# Altium schematic symbol library carrot_lib.SchLib: 285 symbols (part 1 of 4)
Pins are listed as number, name and electrical type; pins without a type are passive.

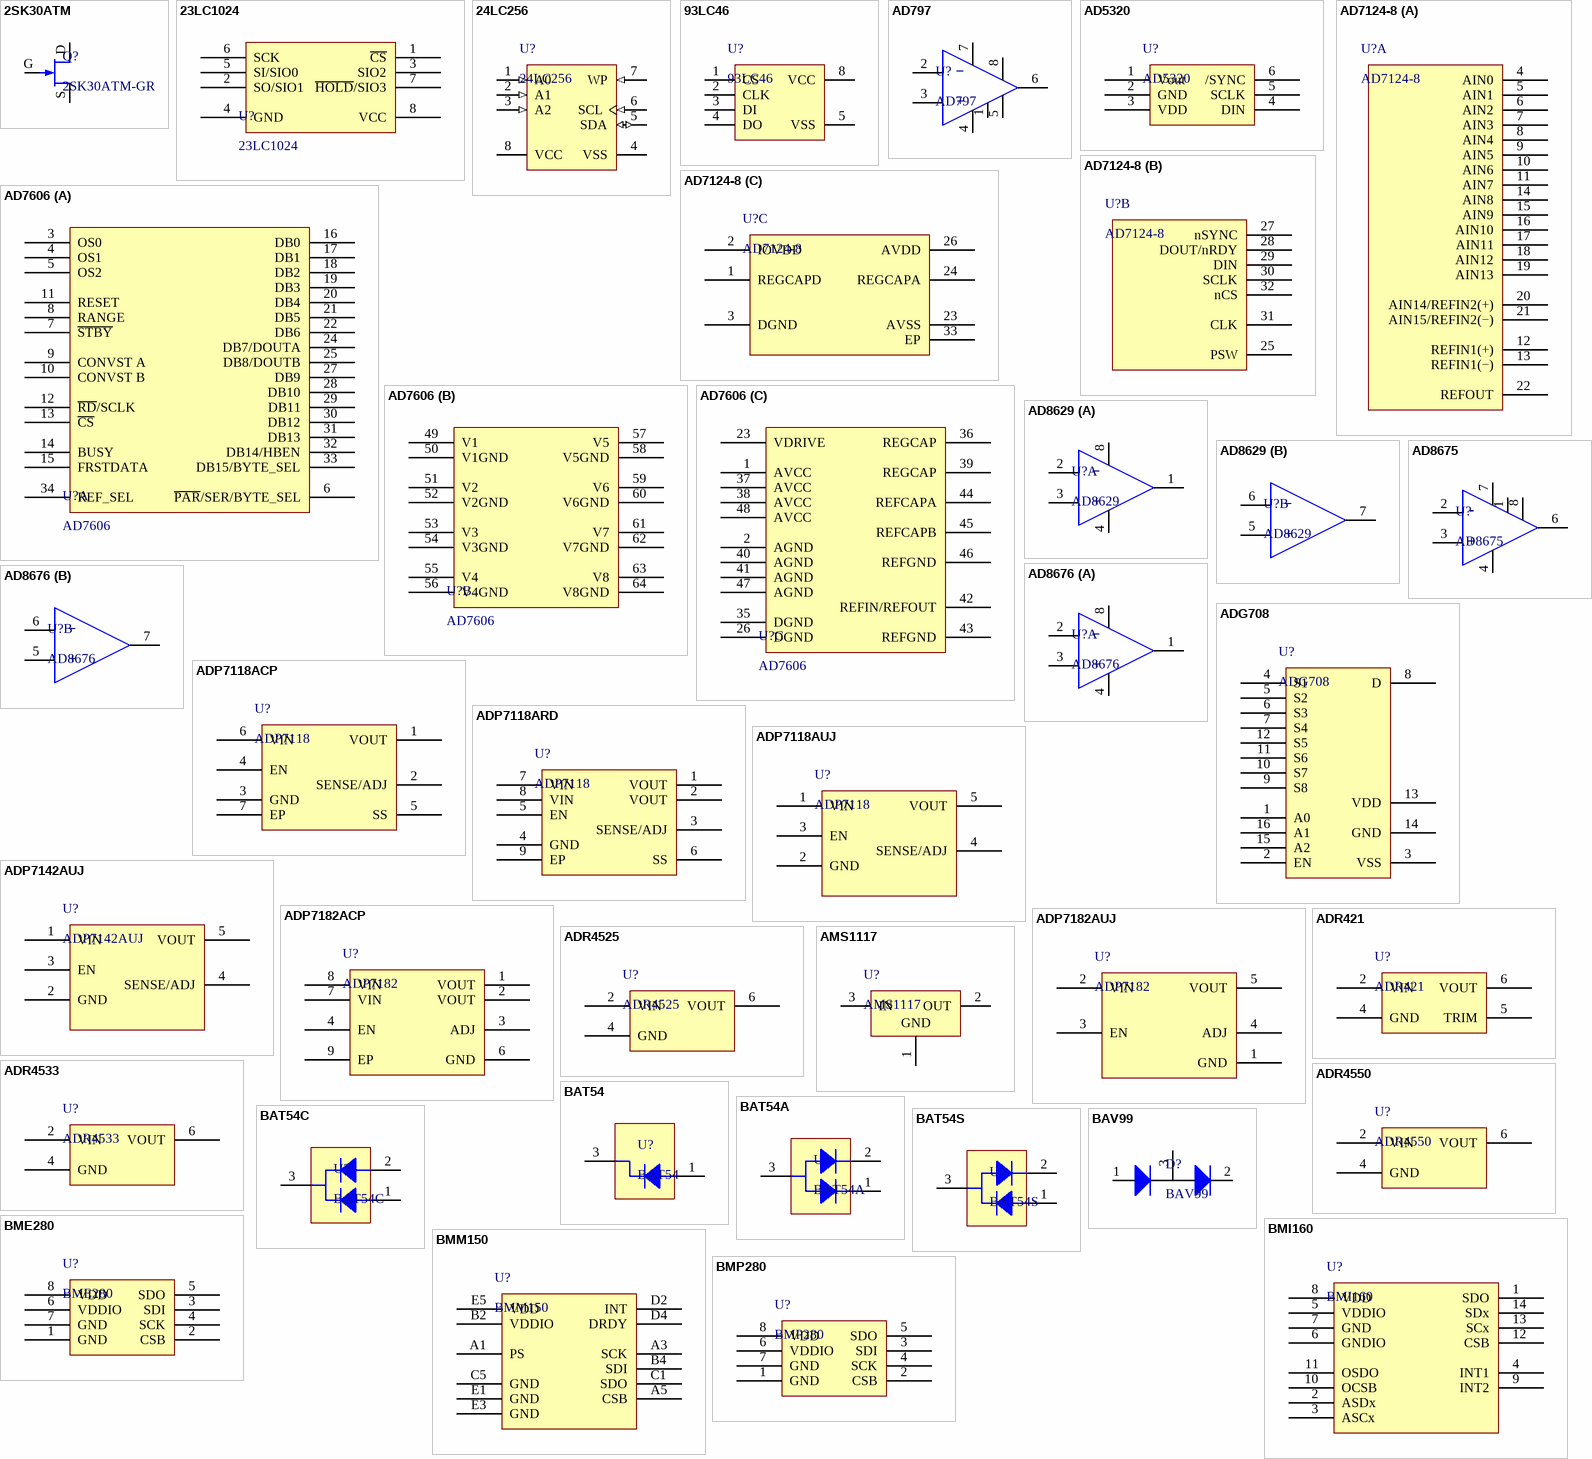
[diagram p0: symbols 2SK30ATM to BMP280]

## 2SK30ATM
designator Q?, comment 2SK30ATM-GR
TOSHIBA Field Effect Transistor, Silicon N Channel Junction Type
footprint 2SK30ATM-TO92 (TO, Flat Index; 3 In-Line, Axial Leads; Body Dia. 4.5mm; Leads 0.51 x 0.48 mm (max))
pins: D, G, S

## 23LC1024
designator U?
1Mbit SPI Serial SRAM with SDI and SQI Interface
footprint 23LC1024-SOIC8 (SOIC, 8-Leads, Body 4.90x3.90mm, Pitch 1.27mm, IPC Medium Density)
pins: 1 ~{CS} "Chip Select Input Pin", 2 SO/SIO1 "Serial Output/SDI/SQI Pin", 3 SIO2 "SQI Pin", 4 GND "Ground Pin", 5 SI/SIO0 "Serial Input/SDI/SQI Pin", 6 SCK "Serial Clock Pin", 7 ~{HOLD}/SIO3 "Hold/SQI Pin", 8 VCC "Power Supply Pin"

## 24LC256
designator U?
256Kbit, 400kHz, 2.5V, I2C Serial EEPROM, 8-Pin SOIC 150mil, Industrial Temperature; Manufacturer: Microchip; PartNumber: 24LC256-I/SN; DatasheetVersion: revP, Oct-2007; PackageVersion: revBB, Aug-2009; PackageReference: SOIC-SN8; PackageDescription: 8-Lead Plastic Small Outline (SN) - Narrow, 3.90mm Body [SOIC]; Mounting Technology: Surface Mount; Code_JEDEC: MS-012; Code_IPC: SOIC127P600-8; ComponentLink1Description: Manufacturer URL; ComponentLink1URL: http://www.microchip.com/; ComponentLink2Description: Datasheet; ComponentLink2URL: http://ww1.microchip.com/downloads/en/DeviceDoc/21203P.pdf; ComponentLink3Description: Package Specification; ComponentLink3URL: http://www.microchip.com/stellent/groups/techpub_sg/documents/packagingspec/en012702.pdf
footprint 24LC256-SOIC8 (SOIC, 8-Leads, Body 4.9x3.8mm, Pitch 1.27mm, IPC Medium Density)
pins: 1 A0 (in), 2 A1 (in), 3 A2 (in), 4 VSS (power), 5 SDA (io), 6 SCL (in), 7 WP (in), 8 VCC (power)

## 93LC46
designator U?
1K Microwire Compatible Serial EEPROM
footprint 93LC46-SOIC8 (SOIC, 8-Leads, Body 4.90x3.90mm, Pitch 1.27mm, IPC Medium Density)
pins: 1 CS, 2 CLK, 3 DI, 4 DO, 5 VSS, 8 VCC

## AD797
designator U?
Ultralow Distortion, Ultralow Noise Op Amp
footprint AD797-SOIC8 (SOIC, 8-Leads, Body 4.90x3.90mm, Pitch 1.27mm, IPC Medium Density)
pins: 1 OFFSET NULL, 2 -IN, 3 +IN, 4 -Vs, 5 OFFSET NULL, 6 OUTPUT, 7 +Vs, 8 DECOMPENSATION AND DISTORTION NEUTRALIZATION
text: –; +

## AD5320
designator U?
footprint AD5320-SOT-23-6 (SOT23, 6-Leads, Body 2.90x2.80mm, Pitch 0.95mm, IPC Medium Density)
pins: 1 Vout, 2 GND, 3 VDD, 4 DIN, 5 SCLK, 6 /SYNC

## AD7124-8
designator U?
8-Channel, Low Noise, Low Power, 24-Bit,Sigma-Delta ADC with PGA and Reference.
footprint AD7124-8-LFCSP32 (QFN, 32-Leads, Body 5.00x5.00mm, Pitch 0.50mm, Thermal Pad 3.65x3.65mm, IPC Medium Density)
footprint AD7124-8-LFCSP32+ (QFN, 32-Leads, Body 5.00x5.00mm, Pitch 0.50mm, Thermal Pad 3.65x3.65mm, IPC Low Density)
part A pins: 4 AIN0 "Analog Input 0.", 5 AIN1 "Analog Input 1.", 6 AIN2 "Analog Input 2.", 7 AIN3 "Analog Input 3.", 8 AIN4 "Analog Input 4.", 9 AIN5 "Analog Input 5.", 10 AIN6 "Analog Input 6.", 11 AIN7 "Analog Input 7.", 12 REFIN1(+) "Positive Reference Input.", 13 REFIN1(−) "Negative Reference Input.", 14 AIN8 "Analog Input 8.", 15 AIN9 "Analog Input 9.", 16 AIN10 "Analog Input 10.", 17 AIN11 "Analog Input 11.", 18 AIN12 "Analog Input 12.", 19 AIN13 "Analog Input 13.", 20 AIN14/REFIN2(+) "Analog Input 14/Positive Reference Input.", 21 AIN15/REFIN2(−) "Analog Input 15/Negative Reference Input.", 22 REFOUT "Internal Reference Output."
part B pins: 25 PSW "Low-Side Power Switch to AVSS.", 27 nSYNC "Synchronization Input.", 28 DOUT/nRDY "Serial Data Output/Data Ready Output.", 29 DIN "Serial Data Input to the Input Shift Register on the ADC.", 30 SCLK "Serial Clock Input.", 31 CLK "Clock Input/Clock Output.", 32 nCS "Chip Select Input."
part C pins: 1 REGCAPD "Digital LDO Regulator Output.", 2 IOVDD "Serial Interface Supply Voltage, 1.65 V to 3.6 V.", 3 DGND "Digital Ground Reference Point.", 23 AVSS "Analog Supply Voltage.", 24 REGCAPA "Analog LDO Regulator Output.", 26 AVDD "Analog Supply Voltage, Relative to AVSS", 33 EP "Exposed Pad."

## AD7606
designator U?
8-Channel DAS with 16-Bit, Bipolar Input, Simultaneous Sampling ADC
footprint AD7606-LQFP64+ (TSQFP, 64-Leads, Body 10.00x10.00mm, Pitch 0.50mm, IPC Medium Density)
footprint AD7606-LQFP64 (TSQFP, 64-Leads, Body 10.00x10.00mm, Pitch 0.50mm, IPC Medium Density)
part A pins: 3 OS0, 4 OS1, 5 OS2, 6 ~{PAR}/SER/BYTE_SEL, 7 ~{STBY}, 8 RANGE, 9 CONVST A, 10 CONVST B, 11 RESET, 12 ~{RD}/SCLK, 13 ~{CS}, 14 BUSY, 15 FRSTDATA, 16 DB0, 17 DB1, 18 DB2, 19 DB3, 20 DB4, 21 DB5, 22 DB6, 24 DB7/DOUTA, 25 DB8/DOUTB, 27 DB9, 28 DB10, 29 DB11, 30 DB12, 31 DB13, 32 DB14/HBEN, 33 DB15/BYTE_SEL, 34 REF_SEL
part B pins: 49 V1, 50 V1GND, 51 V2, 52 V2GND, 53 V3, 54 V3GND, 55 V4, 56 V4GND, 57 V5, 58 V5GND, 59 V6, 60 V6GND, 61 V7, 62 V7GND, 63 V8, 64 V8GND
part C pins: 1 AVCC, 2 AGND, 23 VDRIVE, 26 DGND, 35 DGND, 36 REGCAP, 37 AVCC, 38 AVCC, 39 REGCAP, 40 AGND, 41 AGND, 42 REFIN/REFOUT, 43 REFGND, 44 REFCAPA, 45 REFCAPB, 46 REFGND, 47 AGND, 48 AVCC

## AD8629
designator U?
Zero-Drift, Single-Supply, Rail-to-Rail Input/Output Operational Amplifier.
footprint AD8629-SOIC8 (SOIC, 8-Leads, Body 4.90x3.90mm, Pitch 1.27mm, IPC Medium Density)
part A pins: 1 OUT A, 2 -IN A, 3 +IN A, 4 -Vs, 8 +Vs
part B pins: 5 +IN B, 6 -IN B, 7 OUT B
part A text: –; +
part B text: –; +

## AD8675
designator U?
36 V Precision, 2.8 nV/√Hz Rail-to-Rail Output Op Amp
footprint AD8675-SOIC8 (SOIC, 8-Leads, Body 4.90x3.90mm, Pitch 1.27mm, IPC Medium Density)
pins: 1 OFFSET NULL, 2 -IN, 3 +IN, 4 -Vs, 6 OUTPUT, 7 +Vs, 8 OFFSET NULL
text: -; +

## AD8676
designator U?
Ultraprecision, 36 V, 2.8 nV/√Hz Dual Rail-to-Rail Output Op Amp
footprint AD8676-SOIC8 (SOIC, 8-Leads, Body 4.90x3.90mm, Pitch 1.27mm, IPC Medium Density)
part A pins: 1 OUT A, 2 -IN A, 3 +IN A, 4 -Vs, 8 +Vs
part B pins: 5 +IN B, 6 -IN B, 7 OUT B
part A text: –; +
part B text: –; +

## ADG708
designator U?
CMOS, 1.8 V to 5.5 V/±2.5 V, 3 Ω Low Voltage 4-/8-Channel Multiplexers
footprint ADG708-TSSOP16 (TSOP, 16-Leads, Body 5.00x4.40mm, Pitch 0.65mm, IPC Medium Density)
pins: 1 A0 "Digital Input. Controls the configuration of the switch", 2 EN "Digital Input. Controls the configuration of the switch", 3 VSS "Most Negative Power Supply Pin in Dual-Supply Applications.", 4 S1 "Source Terminal.", 5 S2 "Source Terminal.", 6 S3 "Source Terminal.", 7 S4 "Source Terminal.", 8 D "Drain Terminal.", 9 S8 "Source Terminal.", 10 S7 "Source Terminal.", 11 S6 "Source Terminal.", 12 S5 "Source Terminal.", 13 VDD "Most Positive Power Supply Pin.", 14 GND "Ground (0 V) Reference.", 15 A2 "Digital Input.", 16 A1 "Digital Input."

## ADP7118ACP
designator U?, comment ADP7118
20 V, 200 mA, Low Noise,CMOS LDO Linear Regulator.
footprint ADP7118-LFCSP6 (SON, 6-Leads, Body 2.00x2.00mm, Pitch 0.65mm, Thermal Pad 1.60x0.63mm, IPC Medium Density)
pins: 1 VOUT "Regulated Output Voltage.", 2 SENSE/ADJ "Sense Input (SENSE).", 3 GND "Ground.", 4 EN "The enable pin controls the operation of the LDO.", 5 SS "Soft Start.", 6 VIN "Regulator Input Supply.", 7 EP "Exposed Pad."

## ADP7118ARD
designator U?, comment ADP7118
20 V, 200 mA, Low Noise,CMOS LDO Linear Regulator.
footprint ADP7118-SOIC8 (SOIC, 8-Leads, Body 4.90x3.90mm, Pitch 1.27mm, Thermal Pad 2.29x2.29mm, IPC Medium Density)
pins: 1 VOUT "Regulated Output Voltage.", 2 VOUT "Regulated Output Voltage.", 3 SENSE/ADJ "Sense Input (SENSE).", 4 GND "Ground.", 5 EN "The enable pin controls the operation of the LDO.", 6 SS "Soft Start.", 7 VIN "Regulator Input Supply.", 8 VIN "Regulator Input Supply.", 9 EP "Exposed Pad."

## ADP7118AUJ
designator U?, comment ADP7118
20 V, 200 mA, Low Noise,CMOS LDO Linear Regulator.
footprint ADP7118-TSOT5 (SOT23, 5-Leads, Body 2.90x2.80mm, Pitch 0.95mm, IPC Medium Density)
pins: 1 VIN "Regulator Input Supply.", 2 GND "Ground.", 3 EN "The enable pin controls the operation of the LDO.", 4 SENSE/ADJ "Sense Input (SENSE).", 5 VOUT "Regulated Output Voltage."

## ADP7142AUJ
designator U?
40 V, 200 mA, Low Noise, CMOS LDO Linear Regulator
footprint ADP7142-TSOT5 (SOT23, 5-Leads, Body 2.90x2.80mm, Pitch 0.95mm, IPC Medium Density)
pins: 1 VIN "Regulator Input Supply.", 2 GND "Ground.", 3 EN "The enable pin controls the operation of the LDO.", 4 SENSE/ADJ "Sense Input (SENSE).", 5 VOUT "Regulated Output Voltage."

## ADP7182ACP
designator U?, comment ADP7182
–28 V, −200 mA, Low Noise, Linear Regulator
footprint ADP7182-LFCSP8 (SON, 8-Leads, Body 3.00x3.00mm, Pitch 0.50mm, Thermal Pad 1.74x1.45mm, IPC Medium Density)
footprint ADP7182-LFCSP8+ (SON, 8-Leads, Body 3.00x3.00mm, Pitch 0.50mm, Thermal Pad 1.74x1.45mm, IPC Medium Density)
pins: 1 VOUT "Regulated Output Voltage.", 2 VOUT "Regulated Output Voltage.", 3 ADJ "Adjustable Input.", 4 EN "Drive EN 2 V above or below ground to enable the regulator.", 6 GND "Ground.", 7 VIN "Regulator Input Supply.", 8 VIN "Regulator Input Supply.", 9 EP "Exposed Pad."

## ADP7182AUJ
designator U?, comment ADP7182
–28 V, −200 mA, Low Noise, Linear Regulator
footprint ADP7182-TSOT5 (SOT23, 5-Leads, Body 2.90x2.80mm, Pitch 0.95mm, IPC Medium Density)
pins: 1 GND "Ground.", 2 VIN "Regulator Input Supply.", 3 EN "Drive EN 2 V above or below ground to enable the regulator.", 4 ADJ "Adjustable Input.", 5 VOUT "Regulated Output Voltage."

## ADR421
designator U?
Ultraprecision, Low Noise, 2.500 V XFET® Voltage References
footprint ADR421-SOIC8 (SOIC, 8-Leads, Body 4.90x3.90mm, Pitch 1.27mm, IPC Medium Density)
pins: 2 VIN "Input Voltage.", 4 GND "Ground Pin = 0 V.", 5 TRIM "Trim Terminal.", 6 VOUT "Output Voltage."

## ADR4525
designator U?
Ultralow Noise, High Accuracy Voltage References.
footprint ADR4525-SOIC8 (SOIC, 8-Leads, Body 4.90x3.90mm, Pitch 1.27mm, IPC Medium Density)
pins: 2 VIN "Input Voltage Connection.", 4 GND "Ground.", 6 VOUT "Output Voltage."

## ADR4533
designator U?
Ultralow Noise, High Accuracy Voltage References.
footprint ADR4533-SOIC8 (SOIC, 8-Leads, Body 4.90x3.90mm, Pitch 1.27mm, IPC Medium Density)
pins: 2 VIN "Input Voltage Connection.", 4 GND "Ground.", 6 VOUT "Output Voltage."

## ADR4550
designator U?
Ultralow Noise, High Accuracy Voltage References.
footprint ADR4550-SOIC8 (SOIC, 8-Leads, Body 4.90x3.90mm, Pitch 1.27mm, IPC Medium Density)
pins: 2 VIN "Input Voltage Connection.", 4 GND "Ground.", 6 VOUT "Output Voltage."

## AMS1117
designator U?
footprint AMS1117-SOT223 (SOT-223)
pins: 1 GND, 2 OUT, 3 IN

## BAT54
designator U?
Schottky barrier diodes
footprint BAT54X-SOT23 (SOT23, 3-Leads, Body 2.90x2.37mm, Pitch 0.95mm, IPC Medium Density)
pins: 1, 3

## BAT54A
designator U?
Schottky barrier diodes
footprint BAT54X-SOT23 (SOT23, 3-Leads, Body 2.90x2.37mm, Pitch 0.95mm, IPC Medium Density)
pins: 1, 2, 3

## BAT54C
designator U?
Schottky barrier diodes
footprint BAT54X-SOT23 (SOT23, 3-Leads, Body 2.90x2.37mm, Pitch 0.95mm, IPC Medium Density)
pins: 1, 2, 3

## BAT54S
designator U?
Schottky barrier diodes
footprint BAT54X-SOT23 (SOT23, 3-Leads, Body 2.90x2.37mm, Pitch 0.95mm, IPC Medium Density)
pins: 1, 2, 3

## BAV99
designator D?
Small Signal Switching Diode, Dual in Series
footprint BAV99-SOT23 (SOT23, 3-Leads, Body 2.90x2.37mm, Pitch 0.95mm, IPC Medium Density)
pins: 1 A1, 2 K2, 3 K1/A2

## BME280
designator U?
Combined humidity and pressure sensor
footprint BME280-LGA8 (SON, 8-Leads, Body 2.50x2.00mm, Pitch 0.65mm, IPC Medium Density)
pins: 1 GND "Ground", 2 CSB "Chip select", 3 SDI "Serial data input", 4 SCK "Serial clock input", 5 SDO "Serial data output", 6 VDDIO "Digital interface supply", 7 GND "Ground", 8 VDD "Analog supply"

## BMI160
designator U?
Small, low-power Inertial Measurement Unit
footprint BMI160-LGA14 (LCC, 14-Pins, Body 2.50x3.00mmx0.83mm, Pitch 0.50mm, IPC Medium Density)
pins: 1 SDO "Serial data output in SPI,Address select in I2C mode", 2 ASDx "Magnetometer interface(If INT1 and/or INT2 are not used, please do not connect them (DNC))", 3 ASCx "Magnetometer interface", 4 INT1 "Interrupt pin 1 (If INT1 and/or INT2 are not used, please do not connect them (DNC))", 5 VDDIO "Digital I/O supply voltage  (1.2 … 3.6V)", 6 GNDIO "Ground for I/O", 7 GND "Ground for digital & analog", 8 VDD "Power supply analog & digital domain (1.71V – 3.6V)", 9 INT2 "Interrupt pin 2 (If INT1 and/or INT2 are not used, please do not connect them (DNC))", 10 OCSB "OIS interface", 11 OSDO "OIS interface", 12 CSB "Chip select for SPI mode / Protocol selection pin", 13 SCx "SCK for SPI serial clock, SCL for I²C serial clock", 14 SDx "SDA serial data I/O in I2C, MOSI serial data input in SPI 4W, SISO serial data I/O in SPI 3W"

## BMM150
designator U?
THREE-AXIS GEOMAGNETIC SENSOR
footprint BMM150-BGA12 (BGA, 12-Leads, Body 1.56x1.56mmx0.60mm, Pitch 0.28mm)
footprint BMM150-BGA12+ (BGA, 12-Leads, Body 1.56x1.56mmx0.60mm, Pitch 0.28mm)
pins: A1 PS "Protocol select", A3 SCK "Serial clock", A5 CSB "Chip Select", B2 VDDIO "I/O voltage", B4 SDI "SPI: Data, I²C: Data", C1 SDO "SPI: Data out", C5 GND "Ground", D2 INT "Interrupt output", D4 DRDY "Data ready", E1 GND "Ground", E3 GND "Ground", E5 VDD "Supply voltage"

## BMP280
designator U?
Digital Pressure Sensor
footprint BMP280-LGA8 (SON, 8-Leads, Body 2.50x2.00mm, Pitch 0.65mm, IPC Medium Density)
pins: 1 GND "Ground", 2 CSB "Chip select", 3 SDI "Serial data input", 4 SCK "Serial clock input", 5 SDO "Serial data output", 6 VDDIO "Digital interface supply", 7 GND "Ground", 8 VDD "Analog supply"

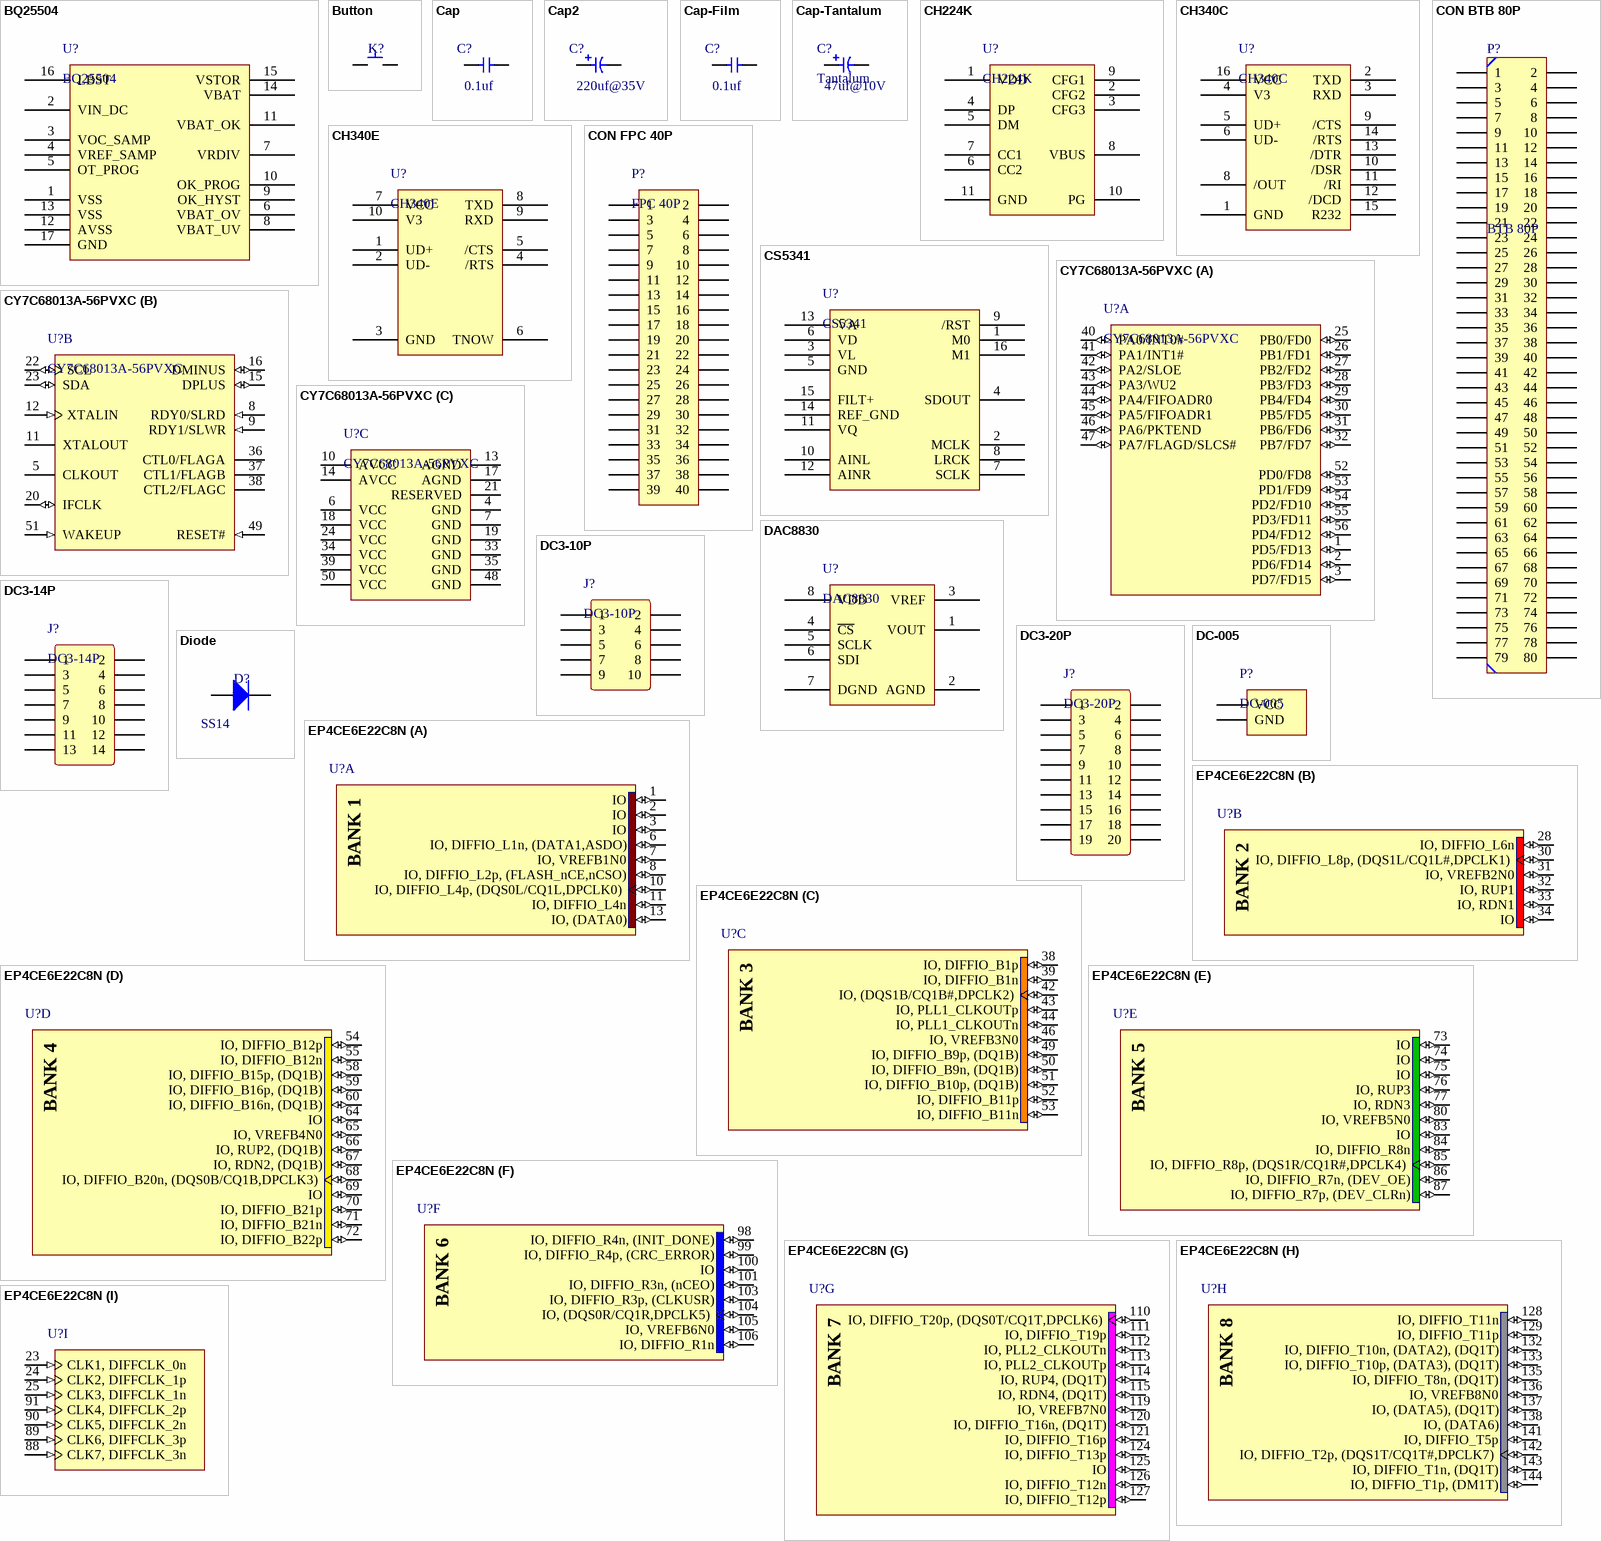
[diagram p1: symbols BQ25504 to EP4CE6E22C8N]

## BQ25504
designator U?
Ultra Low Power Boost Converter with Battery Management for Energy Harvester Applications
footprint BQ25504-VQFN16 (QFN, 16-Leads, Body 3.00x3.00mm, Pitch 0.50mm, Thermal Pad 1.68x1.68mm, IPC Medium Density)
pins: 1 VSS "General ground connection for the device", 2 VIN_DC "DC voltage input from energy harvesters. Connect at least a 4.7 µF capacitor as close as possible between this pin and pin 1.", 3 VOC_SAMP "Sampling pin for MPPT network. Connect to the mid-point of external resistor divider between VIN_DC and GND for setting the MPP threshold voltage which will be stored on the VREF_SAMP pin. To disable the MPPT sampling circuit, connect to VSTOR.", 4 VREF_SAMP "Connect a 0.01 µF low leakage capacitor from this pin to GND to store the voltage to which VIN_DC will be regulated. This voltage is provided by the MPPT sample circuit. When MPPT is disabled, either use an external voltage source to provide this voltage or tie this pin to GND to disable input voltage regulation (i.e. operate from a low impedance power supply).", 5 OT_PROG "Digital Programming input for IC overtemperature threshold. Connect to GND for 60 C threshold or VSTOR for 120 C threshold.", 6 VBAT_OV "Connect to the mid-point of external resistor divider between VRDIV and GND for setting the VSTOR = VBAT overvoltage threshold.", 7 VRDIV "Resistor divider biasing voltage.", 8 VBAT_UV "Connect to the mid-point of external resistor divider between VRDIV and GND for setting the VBAT undervoltage threshold. The PFET between VBAT and VSTOR opens if the voltage on VSTOR is below this threshold.", 9 OK_HYST "Connect to the mid-point of external resistor divider between VRDIV and GND for setting the VBAT_OK hysteresis threshold. If not used, connect this pin to GND.", 10 OK_PROG "Connect to the mid-point of external resistor divider between VRDIV and GND for setting the VBAT_OK threshold.If not used, connect this pin to GND.", 11 VBAT_OK "Digital output for battery good indicator. Internally referenced to the VSTOR voltage. Leave floating if not used.", 12 AVSS "Signal ground connection for the device", 13 VSS "General ground connection for the device", 14 VBAT "Connect a rechargeable storage element with at least 100 uF of equivalent capacitance to this pin", 15 VSTOR "Connection for the output of the boost charger, which is typically connected to the system load. Connect at least a 4.7 µF capacitor in parallel with a 0.1 µF capacitor as close as possible to between this pin and pin 1 (VSS).", 16 LBST "Inductor connection for the boost charger switching node. Connect a 22 µH inductor between this pin and pin 2 (VIN_DC).", 17 GND "Signal ground connection for the device"

## Button
designator K?  (value not drawn)
微动开关
footprint Button (轻触开关6*6*5)
footprint Button-SMD-3.0x6.0x2.5 (轻触开关(贴片) 3*6*2.5MM)
footprint Button-SMD-4.5x4.5x3.8 (轻触开关(贴片) 4.5*4.5*3.8MM)
footprint Button-SMD-6.0x6.0x6.0 (轻触开关(贴片) 6*6*6MM)
footprint Button-SMD-3.0x4.0x2.0 (微动开关(贴片) 3*4*2MM)
footprint Button-SMD-3.0x4.0x2.0+ (微动开关(贴片) 3*4*2MM)
pins: 1 IN, 2 OUT

## Cap
designator C?  value 0.1uf
footprint C0201 (Chip Capacitor, 2-Leads, Body 0.60x0.30mm, IPC Medium Density)
footprint C0402 (Chip Capacitor, 2-Leads, Body 1.00x0.50mm, IPC Medium Density)
footprint C0603 (Chip Capacitor, 2-Leads, Body 1.60x0.81mm, IPC Medium Density)
footprint C0805 (Chip Capacitor, 2-Leads, Body 2.01x1.25mm, IPC Medium Density)
footprint C1206 (Chip Capacitor, 2-Leads, Body 3.20x1.60mm, IPC Medium Density)
footprint C1210 (Chip Capacitor, 2-Leads, Body 3.20x2.50mm, IPC Medium Density)
footprint C1812 (Chip Capacitor, 2-Leads, Body 4.50x3.20mm, IPC Medium Density)
footprint C2225 (Chip Capacitor, 2-Leads, Body 5.72x6.40mm, IPC Medium Density)
pins: 1, 2

## Cap2
designator C?  value 220uf@35V
footprint C6.3X11 (Cap2,D=6.3,d=0.5,F=2.5,L=11)
footprint C10X17 (Cap2,D=10,d=0.6,F=5,L=17)
footprint C5X11 (Cap2,D=5,d=0.5,F=2,L=11)
footprint C13X21 (Cap2,D=13,d=0.6,F=5,L=21)
footprint C8X12 (Cap2,D=8,d=0.5,F=3.5,L=12)
footprint C6.3X7.7-SMD (Aluminum Electrolytic Capacitor, Body 6.60x6.60x8.00mm, IPC Low Density)
footprint C4X5.4-SMD (Aluminum Electrolytic Capacitor, Body 4.30x4.30x5.60mm, IPC Medium Density)
pins: 1, 2

## Cap-Film
designator C?  value 0.1uf
footprint CAP-FILM-7.2X2.5X6.5-P5X0.5 (Film Cap,W=2.5,H=6.5,L=7.2,P=5,D=0.5)
footprint CAP-FILM-7.2X3.0X7.5-P5X0.5 (Film Cap,W=3,H=7.5,L=7.2,P=5,D=0.5)
footprint CAP-FILM-7.2X4.5X6.0-P5X0.5 (Film Cap,W=4.5,H=6,L=7.2,P=5,D=0.5)
footprint CAP-FILM-7.2X4.5X9.5-P5X0.5 (Film Cap,W=4.5,H=9.5,L=7.2,P=5,D=0.5)
footprint CAP-FILM-7.2X5.0X10.0-P5X0.5 (Film Cap,W=5,H=10,L=7.2,P=5,D=0.5)
footprint CAP-FILM-7.2X5.5X7.0-P5X0.5 (Film Cap,W=5.5,H=7,L=7.2,P=5,D=0.5)
footprint CAP-FILM-7.2X6.5X8.0-P5X0.5 (Film Cap,W=6.5,H=8,L=7.2,P=5,D=0.5)
footprint CAP-FILM-7.2X7.2X8.5-P5X0.5 (Film Cap,W=7.2,H=8.5,L=7.2,P=5,D=0.5)
footprint CAP-FILM-7.2X8.5X10-P5X0.5 (Film Cap,W=8.5,H=10,L=7.2,P=5,D=0.5)
footprint CAP-FILM-16.5X10.6X14.5-P15X0.6 (Film Cap,W=10.6,H=14.5,L=16.5,P=15,D=0.6)
pins: 1, 2

## Cap-Tantalum
designator C?, comment Tantalum  value 47uf@10V
footprint C1210T-3528B (Chip Capacitor, 2-Leads, Body 3.50x2.85mm, IPC Medium Density)
footprint C2917T-7343D (Chip Capacitor, 2-Leads, Body 7.30x4.35mm, IPC Medium Density)
pins: 1, 2

## CH224K
designator U?
USB PD 等多快充协议受电芯片CH224
footprint CH224K-ESSOP10 (TSOP, 10-Leads, Body 4.90x3.90mm, Pitch 1.00mm, Thermal Pad 3.40x2.20mm, IPC Medium Density)
pins: 1 VDD, 2 CFG2, 3 CFG3, 4 DP, 5 DM, 6 CC2, 7 CC1, 8 VBUS, 9 CFG1, 10 PG, 11 GND

## CH340C
designator U?
USB 转串口芯片
footprint CH340C-SOP16 (SOP, 16-Leads, Body 9.90x3.90mm, Pitch 1.27mm, IPC Medium Density)
pins: 1 GND, 2 TXD, 3 RXD, 4 V3, 5 UD+, 6 UD-, 8 /OUT, 9 /CTS, 10 /DSR, 11 /RI, 12 /DCD, 13 /DTR, 14 /RTS, 15 R232, 16 VCC

## CH340E
designator U?
USB 转串口芯片
footprint CH340E-MSOP10 (TSSOP, 10-Leads, Body 3.00x3.00mm, Pitch 0.50mm, IPC Medium Density)
pins: 1 UD+, 2 UD-, 3 GND, 4 /RTS, 5 /CTS, 6 TNOW, 7 VCC, 8 TXD, 9 RXD, 10 V3

## CON BTB 80P
designator P?, comment BTB 80P
Free Height, PCB Mount Receptacle, Vertical, Board-to-Board, 80 Position, .8mm [.031in] Centerline, Gold, Printed Circuit Board; LatestRevisionDate: 17-Jul-2002; LatestRevisionNote: Re-released for DXP Platform.; Publisher: Altium Limited
footprint BTB-0.8mm-80P-F (TE-5177983)
footprint BTB-0.8mm-80P-F+ (TE-5177983)
footprint BTB-0.8mm-80P-M (TE-5177983)
footprint BTB-0.8mm-80P-M+ (TE-5177983)
pins: 1, 2, 3, 4, 5, 6, 7, 8, 9, 10, 11, 12, 13, 14, 15, 16, 17, 18, 19, 20, 21, 22, 23, 24, 25, 26, 27, 28, 29, 30, 31, 32, 33, 34, 35, 36, 37, 38, 39, 40, 41, 42, 43, 44, 45, 46, 47, 48, 49, 50, 51, 52, 53, 54, 55, 56, 57, 58, 59, 60, 61, 62, 63, 64, 65, 66, 67, 68, 69, 70, 71, 72, 73, 74, 75, 76, 77, 78, 79, 80

## CON FPC 40P
designator P?, comment FPC 40P
FPC Connectors, Flex-to-Board, 40 Position, .5mm [.02in] Centerline, Zero Insertion Force (ZIF), Right Angle, Surface Mount
footprint FPC-0.5mm-40P (TE-4-1775333-0)
footprint FPC-0.5mm-40P+ (TE-4-1775333-0)
pins: 1, 2, 3, 4, 5, 6, 7, 8, 9, 10, 11, 12, 13, 14, 15, 16, 17, 18, 19, 20, 21, 22, 23, 24, 25, 26, 27, 28, 29, 30, 31, 32, 33, 34, 35, 36, 37, 38, 39, 40

## CS5341
designator U?
105 dB, 192 kHz Stereo A/D Converters
footprint CS5341-TSSOP16 (TSOP, 16-Leads, Body 5.00x4.40mm, Pitch 0.65mm, IPC Medium Density)
pins: 1 M0 "Mode Selection", 2 MCLK "Master Clock", 3 VL "Logic Power", 4 SDOUT "Serial Audio Data Output", 5 GND "Ground", 6 VD "Digital Power", 7 SCLK "Serial Clock", 8 LRCK "Left Right Clock", 9 /RST "Reset", 10 AINL "Analog Input", 11 VQ "Quiescent Voltage", 12 AINR "Analog Input", 13 VA "Analog Power", 14 REF_GND "Ground", 15 FILT+ "Positive Voltage Reference", 16 M1 "Mode Selection"

## CY7C68013A-56PVXC
designator U?
EZ-USB(R) FX2LP(TM) USB Microcontroller High-Speed USB Peripheral Controller, 16 KB, 24 I/Os, 3 to 3.6 V, 0 to 70 degC, 56-Pin SSOP (PVX56), Tube; Manufacturer: Cypress; Max. Operating Voltage (V): 3.6; Memory Architecture: RAM; Memory Size (KB): 16; Min. Operating Voltage (V): 3; No. of I/Os: 24; DatasheetVersion: Rev. *W; PackageVersion: Rev. *F, 08/2012; PackageReference: PVX56; PackageDescription: 56-Pin Shrunk Small Outline Package, Body 7.506 x 18.415 mm, Pitch 0.635 mm; CPU Core: Enhanced 8051; Max. Operating Temp. (degreesC): 70; Min. Operating Temp. (degreesC): 0; Packing: Tube; RoHS: Pb-Free; Mounting Technology: Surface Mount; PartNumber: CY7C68013A-56PVXC; ComponentLink1Description: Manufacturer URL; ComponentLink1URL: http://www.cypress.com/; ComponentLink2Description: Datasheet; ComponentLink2URL: http://www.cypress.com/?docID=45142; ComponentLink3Description: Package Specification; ComponentLink3URL: http://www.cypress.com/?docID=39259
footprint CY7C68013A-SSOP56 (SOP, 56-Leads, Body 18.415x7.506mm, Pitch 0.635mm , IPC Medium Density)
part A pins: 1 PD5/FD13 (io), 2 PD6/FD14 (io), 3 PD7/FD15 (io), 25 PB0/FD0 (io), 26 PB1/FD1 (io), 27 PB2/FD2 (io), 28 PB3/FD3 (io), 29 PB4/FD4 (io), 30 PB5/FD5 (io), 31 PB6/FD6 (io), 32 PB7/FD7 (io), 40 PA0/INT0# (io), 41 PA1/INT1# (io), 42 PA2/SLOE (io), 43 PA3/WU2 (io), 44 PA4/FIFOADR0 (io), 45 PA5/FIFOADR1 (io), 46 PA6/PKTEND (io), 47 PA7/FLAGD/SLCS# (io), 52 PD0/FD8 (io), 53 PD1/FD9 (io), 54 PD2/FD10 (io), 55 PD3/FD11 (io), 56 PD4/FD12 (io)
part B pins: 5 CLKOUT (hiz) "12-, 24- or 48 MHz clock, phase locked to the 24 MHz input clock. The 8051 defaults to 12 MHz operation. The 8051 may three-state this output by setting CPUCS.1 = 1.", 8 RDY0/SLRD (in), 9 RDY1/SLWR (in), 11 XTALOUT "Crystal Output. Connect this signal to a 24 MHz parallel-resonant, fundamental mode crystal and load capacitor to GND.If an external clock is used to drive XTALIN, leave this pin open.", 12 XTALIN (in) "Crystal Input. Connect this signal to a 24 MHz parallel-resonant, fundamental mode crystal and load capacitor to GND. It is also correct to drive XTALIN with an external 24-MHz square wave derived from another clock source. (See Datasheet)", 15 DPLUS (io) "USB D+ Signal. Connect to the USB D+ signal", 16 DMINUS (io) "USB D- Signal. Connect to the USB D- signal.", 20 IFCLK (io) "Interface Clock, used for synchronously clocking data into or out of the slave FIFOs. IFCLK also serves as a timing reference for all slave FIFO control signals and GPIF. When internal clocking is used (IFCONFIG.7 = 1) the (See Datasheet)", 22 SCL (io) "Clock for the I2C interface. Connect to VCC with a 2.2K resistor, even if no I2C peripheral is attached.", 23 SDA (io) "Data for I2C compatible interface. Connect to VCC with a 2.2K resistor, even if no I2C compatible peripheral is attached.", 36 CTL0/FLAGA (hiz), 37 CTL1/FLAGB (hiz), 38 CTL2/FLAGC (hiz), 49 RESET# (in) "Active LOW Reset. Resets the entire chip. See section 2.9 ”Reset and Wakeup” on page 8 for more details.", 51 WAKEUP (in) "USB Wakeup. If the 8051 is in suspend, asserting this pin starts up the oscillator and interrupts the 8051 to enable it to exit the suspend mode. Holding WAKEUP asserted inhibits the EZ-USBa chip from suspending. This pin(See Datasheet)"
part C pins: 4 GND (power) "Ground.", 6 VCC (power) "VCC. Connect to 3.3 V power source.", 7 GND (power) "Ground.", 10 AVCC (power) "Analog VCC. Connect this pin to 3.3V power source. This signal provides power to the analog section of the chip.", 13 AGND (power) "Analog Ground. Connect to ground with as short a path as possible.", 14 AVCC (power) "Analog VCC. Connect this pin to 3.3V power source. This signal provides power to the analog section of the chip.", 17 AGND (power) "Analog Ground. Connect to ground with as short a path as possible.", 18 VCC (power) "VCC. Connect to 3.3 V power source.", 19 GND (power) "Ground.", 21 RESERVED (power) "Reserved. Connect to ground.", 24 VCC (power) "VCC. Connect to 3.3 V power source.", 33 GND (power) "Ground.", 34 VCC (power) "VCC. Connect to 3.3 V power source.", 35 GND (power) "Ground.", 39 VCC (power) "VCC. Connect to 3.3 V power source.", 48 GND (power) "Ground.", 50 VCC (power) "VCC. Connect to 3.3 V power source."

## DAC8830
designator U?
16-Bit, Ultra-Low Power, Voltage-Output Digital-to-Analog Converters
footprint DAC8830-SOIC8 (SOIC, 8-Leads, Body 4.90x3.90mm, Pitch 1.27mm, IPC Medium Density)
pins: 1 VOUT "Analog output of DAC", 2 AGND "Analog ground", 3 VREF "Voltage reference input", 4 ~{CS} "Chip select input", 5 SCLK "Serial clock input", 6 SDI "Serial data input", 7 DGND "Digital ground", 8 VDD "Analog power supply, +3 V to +5 V"

## DC3-10P
designator J?
footprint DC3-10P
pins: 1, 2, 3, 4, 5, 6, 7, 8, 9, 10

## DC3-14P
designator J?
footprint DC3-14P
footprint DC3-14PL
pins: 1, 2, 3, 4, 5, 6, 7, 8, 9, 10, 11, 12, 13, 14

## DC3-20P
designator J?
footprint DC3-20P
footprint DC3-20PL
pins: 1, 2, 3, 4, 5, 6, 7, 8, 9, 10, 11, 12, 13, 14, 15, 16, 17, 18, 19, 20

## DC-005
designator P?
footprint DC-005
pins: 1 VCC, 2 GND

## Diode
designator D?  value SS14
通用二极管
footprint DIODE-SMA/DO-214AC (DO-214-AC/SMA; 2 C-Bend Leads; Body 5.0 x 2.7 mm, inc. leads (LxW))
footprint DIODE-SMB/DO-214AA (DO-214-AA/SMB; 2 C-Bend Leads; Body 5.3 x 3.6 mm, inc. leads (LxW))
footprint DIODE-SMC/DO-214AB (DO-214-AB/SMC; 2 C-Bend Leads; Body 7.9 x 5.9 mm, inc. leads (LxW))
footprint DIODE-LL-34 (Chip Resistor, 2-Leads, Body 3.20x1.60mm, IPC Medium Density)
footprint DIODE-SOD-323 (SOD-323;Diode;)
footprint DIODE-SMAF (SMAF; 2 C-Bend Leads; Body 5.0 x 2.7 mm, inc. leads (LxW))
pins: 1 A, 2 K

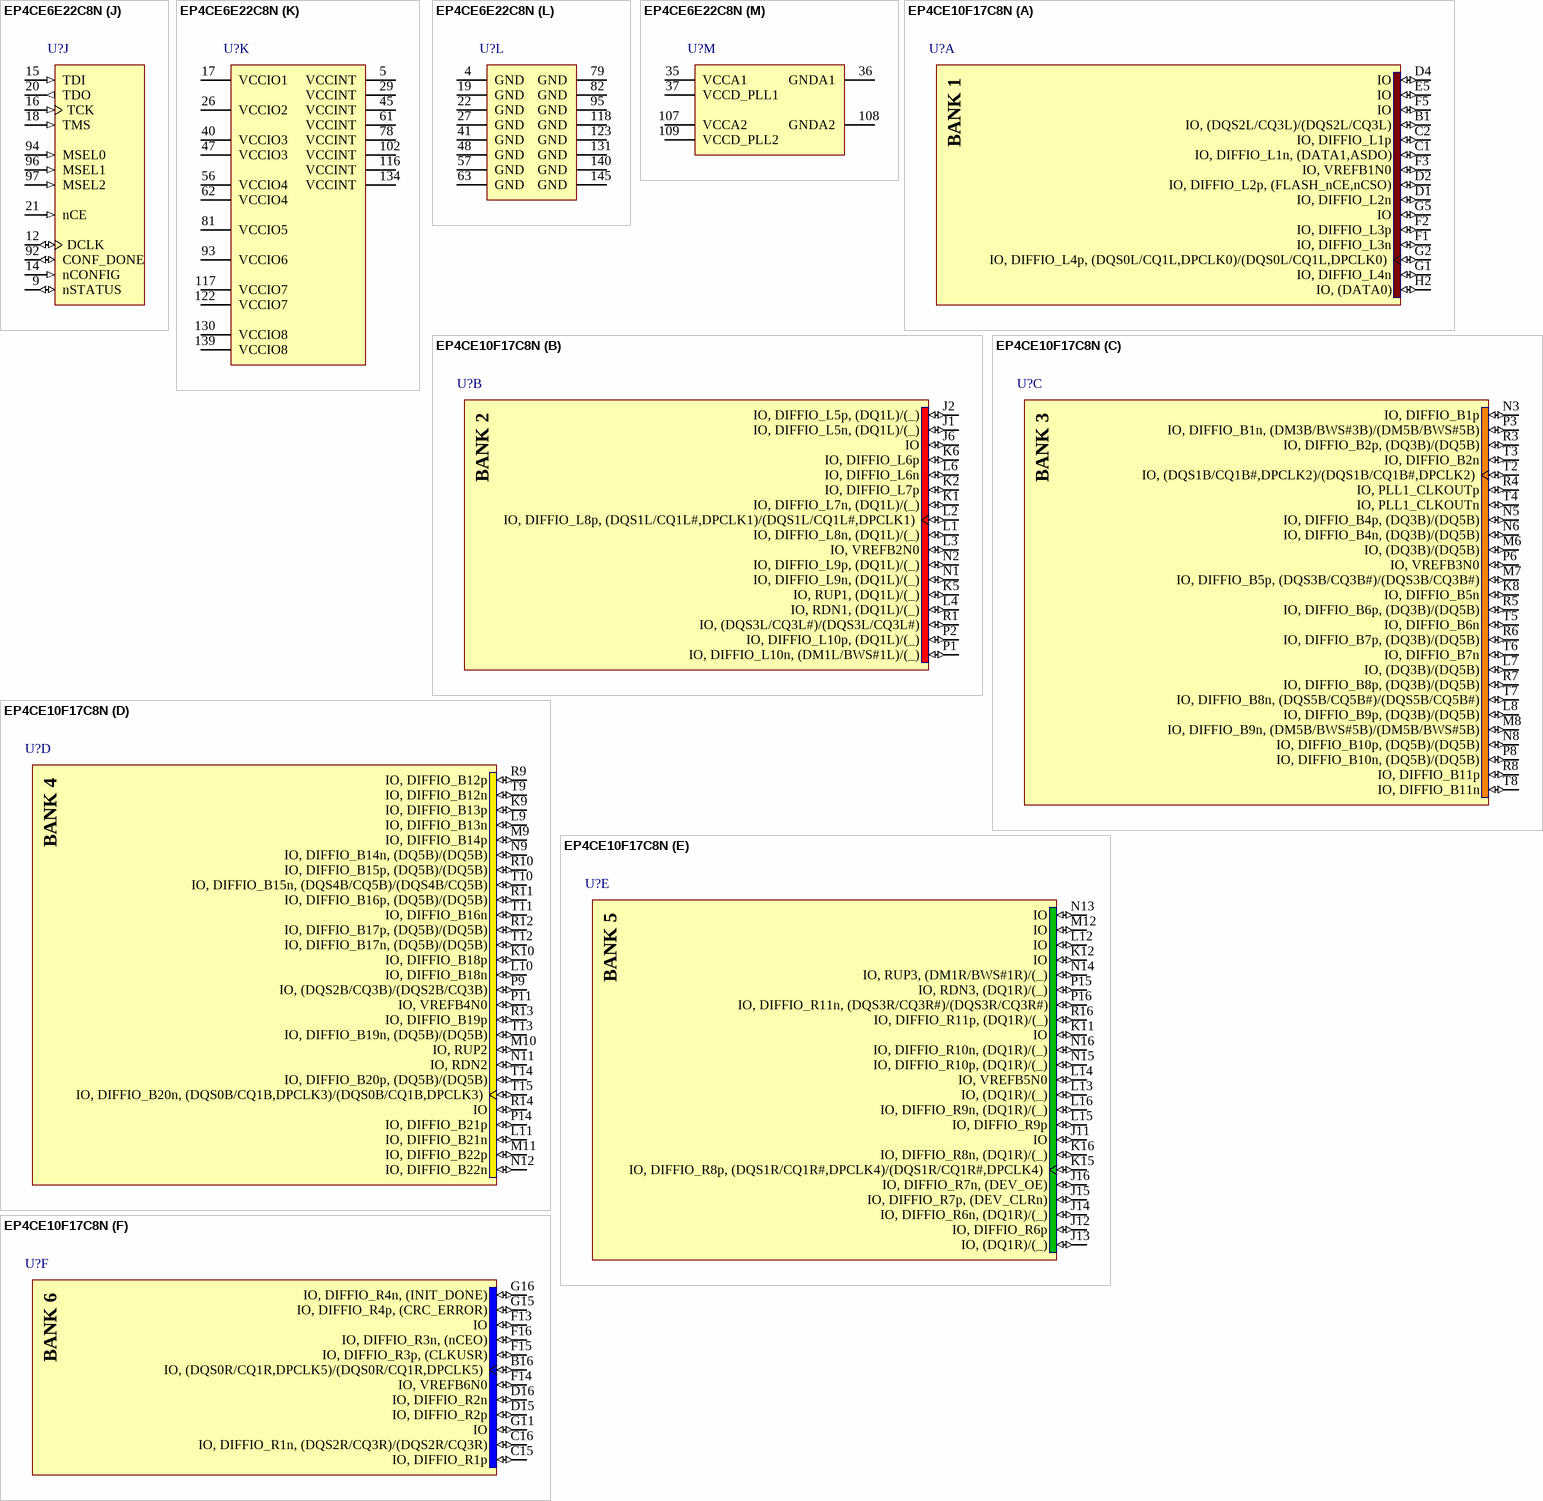
[diagram p2: symbols EP4CE6E22C8N to EP4CE10F17C8N]

## EP4CE6E22C8N
designator U?
Cyclone IV Family FPGA, 1.2V Core, 91 I/O Pins, 2 PLLs, 144-Pin QFP, Speed Grade 8, Commercial Grade, Pb-Free; Manufacturer: Altera; DatasheetVersion: ver1.6, Nov-2011; PackageVersion: ver1.0, Jan-2011; PackageReference: EQFP144_A-165_D2-54; PackageDescription: 144-Pin Plastic Enhanced Quad Flat Pack (EQFP) - Wire Bond - A:1.65 - D2:5.4; Code_JEDEC: MS-026-BFB-HD; ComponentLink1Description: Manufacturer URL; ComponentLink1URL: http://www.altera.com/; ComponentLink2Description: Handbook; ComponentLink2URL: http://www.altera.com/literature/hb/cyclone-iv/cyclone4-handbook.pdf; ComponentLink3Description: Pinout; ComponentLink3URL: http://www.altera.com/literature/lit-dp.jsp?category=cyc%204&showspreadsheet=y; ComponentLink4Description: Package Specification; ComponentLink4URL: http://www.altera.com/devicepackaging/04R00402-00.pdf
footprint EP4CE6E22C8N-EQFP144 (Shrink QFP, 144-Leads, Body 20x20mm, Pitch 0.5mm, Thermal Pad 5.55x5.55mm, IPC Medium Density)
footprint EP4CE6E22C8N-EQFP144+ (Shrink QFP, 144-Leads, Body 20x20mm, Pitch 0.5mm, Thermal Pad 5.55x5.55mm, IPC Medium Density)
footprint EP4CE6E22C8N-EQFP144++ (SQFP, 144-Leads, Body 20.00x20.00mm, Pitch 0.50mm, Thermal Pad 5.55x5.55mm, IPC Medium Density)
part A pins: 1 IO (io), 2 IO (io), 3 IO (io), 6 IO, DIFFIO_L1n, (DATA1,ASDO) (io), 7 IO, VREFB1N0 (io), 8 IO, DIFFIO_L2p, (FLASH_nCE,nCSO) (io), 10 IO, DIFFIO_L4p, (DQS0L/CQ1L,DPCLK0) (io), 11 IO, DIFFIO_L4n (io), 13 IO, (DATA0) (io)
part B pins: 28 IO, DIFFIO_L6n (io), 30 IO, DIFFIO_L8p, (DQS1L/CQ1L#,DPCLK1) (io), 31 IO, VREFB2N0 (io), 32 IO, RUP1 (io), 33 IO, RDN1 (io), 34 IO (io)
part C pins: 38 IO, DIFFIO_B1p (io), 39 IO, DIFFIO_B1n (io), 42 IO, (DQS1B/CQ1B#,DPCLK2) (io), 43 IO, PLL1_CLKOUTp (io), 44 IO, PLL1_CLKOUTn (io), 46 IO, VREFB3N0 (io), 49 IO, DIFFIO_B9p, (DQ1B) (io), 50 IO, DIFFIO_B9n, (DQ1B) (io), 51 IO, DIFFIO_B10p, (DQ1B) (io), 52 IO, DIFFIO_B11p (io), 53 IO, DIFFIO_B11n (io)
part D pins: 54 IO, DIFFIO_B12p (io), 55 IO, DIFFIO_B12n (io), 58 IO, DIFFIO_B15p, (DQ1B) (io), 59 IO, DIFFIO_B16p, (DQ1B) (io), 60 IO, DIFFIO_B16n, (DQ1B) (io), 64 IO (io), 65 IO, VREFB4N0 (io), 66 IO, RUP2, (DQ1B) (io), 67 IO, RDN2, (DQ1B) (io), 68 IO, DIFFIO_B20n, (DQS0B/CQ1B,DPCLK3) (io), 69 IO (io), 70 IO, DIFFIO_B21p (io), 71 IO, DIFFIO_B21n (io), 72 IO, DIFFIO_B22p (io)
part E pins: 73 IO (io), 74 IO (io), 75 IO (io), 76 IO, RUP3 (io), 77 IO, RDN3 (io), 80 IO, VREFB5N0 (io), 83 IO (io), 84 IO, DIFFIO_R8n (io), 85 IO, DIFFIO_R8p, (DQS1R/CQ1R#,DPCLK4) (io), 86 IO, DIFFIO_R7n, (DEV_OE) (io), 87 IO, DIFFIO_R7p, (DEV_CLRn) (io)
part F pins: 98 IO, DIFFIO_R4n, (INIT_DONE) (io), 99 IO, DIFFIO_R4p, (CRC_ERROR) (io), 100 IO (io), 101 IO, DIFFIO_R3n, (nCEO) (io), 103 IO, DIFFIO_R3p, (CLKUSR) (io), 104 IO, (DQS0R/CQ1R,DPCLK5) (io), 105 IO, VREFB6N0 (io), 106 IO, DIFFIO_R1n (io)
part G pins: 110 IO, DIFFIO_T20p, (DQS0T/CQ1T,DPCLK6) (io), 111 IO, DIFFIO_T19p (io), 112 IO, PLL2_CLKOUTn (io), 113 IO, PLL2_CLKOUTp (io), 114 IO, RUP4, (DQ1T) (io), 115 IO, RDN4, (DQ1T) (io), 119 IO, VREFB7N0 (io), 120 IO, DIFFIO_T16n, (DQ1T) (io), 121 IO, DIFFIO_T16p (io), 124 IO, DIFFIO_T13p (io), 125 IO (io), 126 IO, DIFFIO_T12n (io), 127 IO, DIFFIO_T12p (io)
part H pins: 128 IO, DIFFIO_T11n (io), 129 IO, DIFFIO_T11p (io), 132 IO, DIFFIO_T10n, (DATA2), (DQ1T) (io), 133 IO, DIFFIO_T10p, (DATA3), (DQ1T) (io), 135 IO, DIFFIO_T8n, (DQ1T) (io), 136 IO, VREFB8N0 (io), 137 IO, (DATA5), (DQ1T) (io), 138 IO, (DATA6) (io), 141 IO, DIFFIO_T5p (io), 142 IO, DIFFIO_T2p, (DQS1T/CQ1T#,DPCLK7) (io), 143 IO, DIFFIO_T1n, (DQ1T) (io), 144 IO, DIFFIO_T1p, (DM1T) (io)
part I pins: 23 CLK1, DIFFCLK_0n (in), 24 CLK2, DIFFCLK_1p (in), 25 CLK3, DIFFCLK_1n (in), 88 CLK7, DIFFCLK_3n (in), 89 CLK6, DIFFCLK_3p (in), 90 CLK5, DIFFCLK_2n (in), 91 CLK4, DIFFCLK_2p (in)
part J pins: 9 nSTATUS (io), 12 DCLK (io), 14 nCONFIG (in), 15 TDI (in), 16 TCK (in), 18 TMS (in), 20 TDO (out), 21 nCE (in), 92 CONF_DONE (io), 94 MSEL0 (in), 96 MSEL1 (in), 97 MSEL2 (in)
part K pins: 5 VCCINT (power), 17 VCCIO1 (power), 26 VCCIO2 (power), 29 VCCINT (power), 40 VCCIO3 (power), 45 VCCINT (power), 47 VCCIO3 (power), 56 VCCIO4 (power), 61 VCCINT (power), 62 VCCIO4 (power), 78 VCCINT (power), 81 VCCIO5 (power), 93 VCCIO6 (power), 102 VCCINT (power), 116 VCCINT (power), 117 VCCIO7 (power), 122 VCCIO7 (power), 130 VCCIO8 (power), 134 VCCINT (power), 139 VCCIO8 (power)
part L pins: 4 GND (power), 19 GND (power), 22 GND (power), 27 GND (power), 41 GND (power), 48 GND (power), 57 GND (power), 63 GND (power), 79 GND (power), 82 GND (power), 95 GND (power), 118 GND (power), 123 GND (power), 131 GND (power), 140 GND (power), 145 GND (power)
part M pins: 35 VCCA1 (power), 36 GNDA1 (power), 37 VCCD_PLL1 (power), 107 VCCA2 (power), 108 GNDA2 (power), 109 VCCD_PLL2 (power)
part A text: BANK 1
part B text: BANK 2
part C text: BANK 3
part D text: BANK 4
part E text: BANK 5
part F text: BANK 6
part G text: BANK 7
part H text: BANK 8

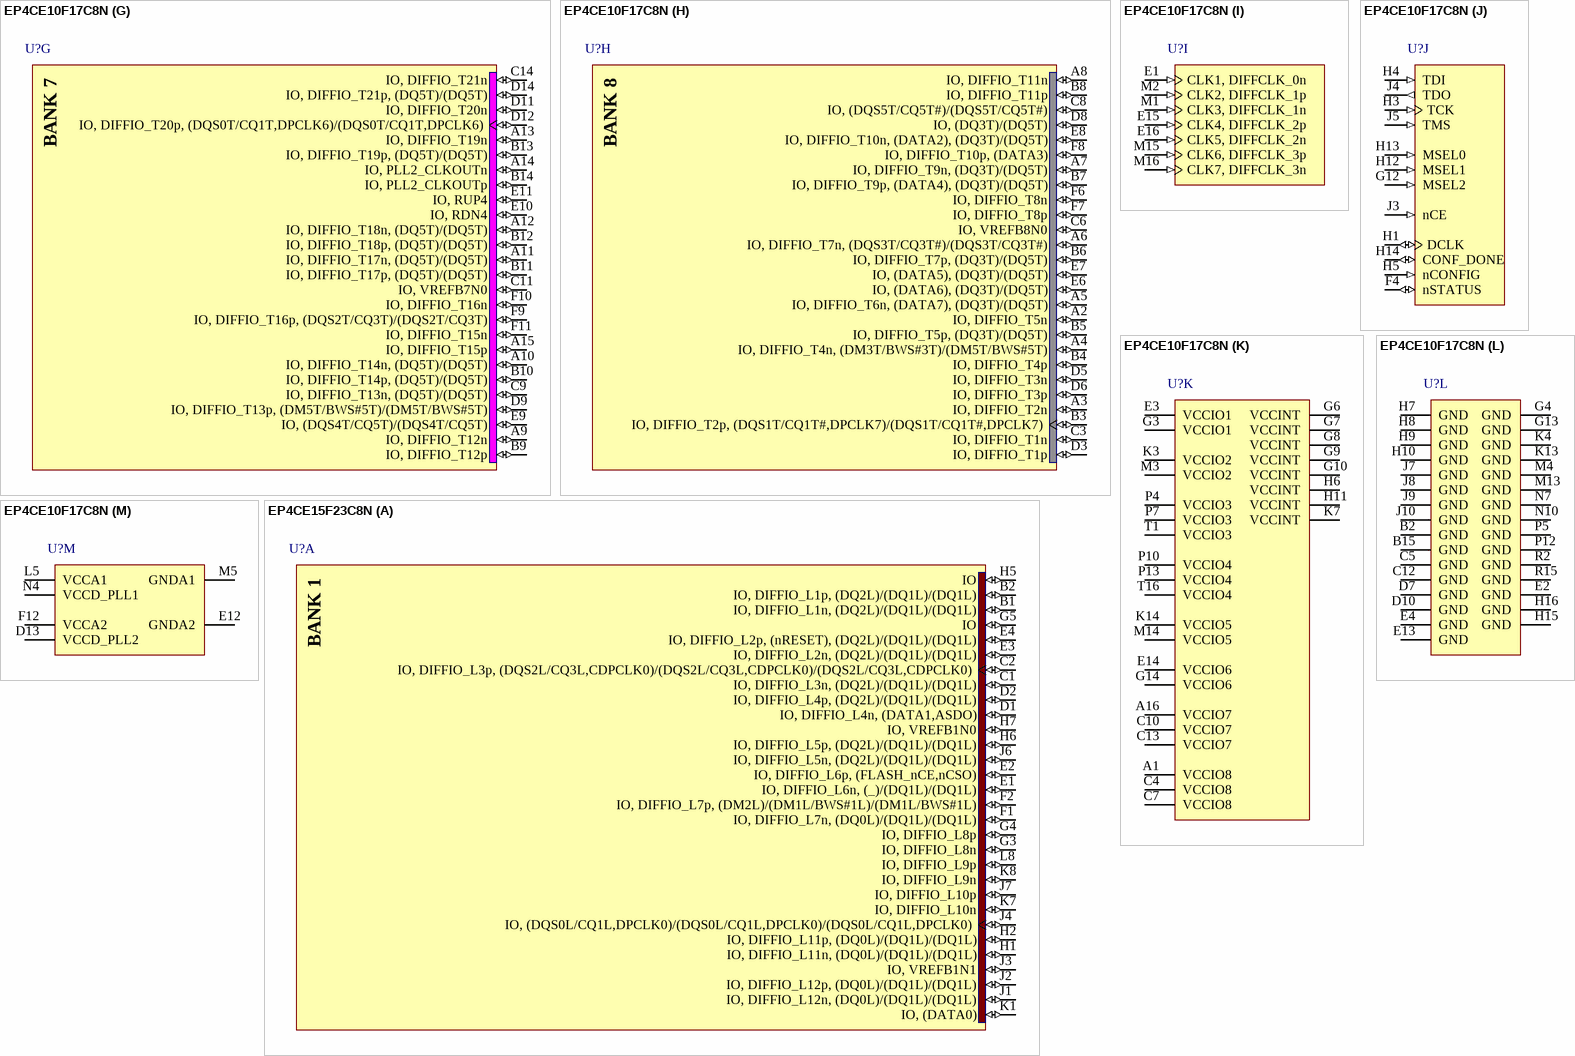
[diagram p3: symbols EP4CE10F17C8N to EP4CE15F23C8N]

## EP4CE10F17C8N
designator U?
Cyclone IV Family FPGA, 1.2V Core, 179 I/O Pins, 2 PLLs, 256-Pin FBGA, Speed Grade 8, Commercial Grade, Pb-Free; Manufacturer: Altera; DatasheetVersion: ver1.6, Nov-2011; PackageVersion: ver2.0, Nov-2011; PackageReference: FBGA256_A-155; PackageDescription: 256-Pin FineLine Ball-Grid Array (FBGA) - Thin - Wire Bond - A:1.55; Code_JEDEC: MO-192-DAF-1; ComponentLink1Description: Manufacturer URL; ComponentLink1URL: http://www.altera.com/; ComponentLink2Description: Handbook; ComponentLink2URL: http://www.altera.com/literature/hb/cyclone-iv/cyclone4-handbook.pdf; ComponentLink3Description: Pinout; ComponentLink3URL: http://www.altera.com/literature/lit-dp.jsp?category=cyc%204&showspreadsheet=y; ComponentLink4Description: Package Specification; ComponentLink4URL: http://www.altera.com/devicepackaging/04R00230-03.pdf
footprint EP4CE10F17C8N-FBGA256 (BGA, 256-Leads, Body 17x17mm, Pitch 1mm)
part A pins: B1 IO, (DQS2L/CQ3L)/(DQS2L/CQ3L) (io), C1 IO, DIFFIO_L1n, (DATA1,ASDO) (io), C2 IO, DIFFIO_L1p (io), D1 IO, DIFFIO_L2n (io), D2 IO, DIFFIO_L2p, (FLASH_nCE,nCSO) (io), D4 IO (io), E5 IO (io), F1 IO, DIFFIO_L3n (io), F2 IO, DIFFIO_L3p (io), F3 IO, VREFB1N0 (io), F5 IO (io), G1 IO, DIFFIO_L4n (io), G2 IO, DIFFIO_L4p, (DQS0L/CQ1L,DPCLK0)/(DQS0L/CQ1L,DPCLK0) (io), G5 IO (io), H2 IO, (DATA0) (io)
part B pins: J1 IO, DIFFIO_L5n, (DQ1L)/(_) (io), J2 IO, DIFFIO_L5p, (DQ1L)/(_) (io), J6 IO (io), K1 IO, DIFFIO_L7n, (DQ1L)/(_) (io), K2 IO, DIFFIO_L7p (io), K5 IO, RUP1, (DQ1L)/(_) (io), K6 IO, DIFFIO_L6p (io), L1 IO, DIFFIO_L8n, (DQ1L)/(_) (io), L2 IO, DIFFIO_L8p, (DQS1L/CQ1L#,DPCLK1)/(DQS1L/CQ1L#,DPCLK1) (io), L3 IO, VREFB2N0 (io), L4 IO, RDN1, (DQ1L)/(_) (io), L6 IO, DIFFIO_L6n (io), N1 IO, DIFFIO_L9n, (DQ1L)/(_) (io), N2 IO, DIFFIO_L9p, (DQ1L)/(_) (io), P1 IO, DIFFIO_L10n, (DM1L/BWS#1L)/(_) (io), P2 IO, DIFFIO_L10p, (DQ1L)/(_) (io), R1 IO, (DQS3L/CQ3L#)/(DQS3L/CQ3L#) (io)
part C pins: K8 IO, DIFFIO_B5n (io), L7 IO, (DQ3B)/(DQ5B) (io), L8 IO, DIFFIO_B9p, (DQ3B)/(DQ5B) (io), M6 IO, (DQ3B)/(DQ5B) (io), M7 IO, DIFFIO_B5p, (DQS3B/CQ3B#)/(DQS3B/CQ3B#) (io), M8 IO, DIFFIO_B9n, (DM5B/BWS#5B)/(DM5B/BWS#5B) (io), N3 IO, DIFFIO_B1p (io), N5 IO, DIFFIO_B4p, (DQ3B)/(DQ5B) (io), N6 IO, DIFFIO_B4n, (DQ3B)/(DQ5B) (io), N8 IO, DIFFIO_B10p, (DQ5B)/(DQ5B) (io), P3 IO, DIFFIO_B1n, (DM3B/BWS#3B)/(DM5B/BWS#5B) (io), P6 IO, VREFB3N0 (io), P8 IO, DIFFIO_B10n, (DQ5B)/(DQ5B) (io), R3 IO, DIFFIO_B2p, (DQ3B)/(DQ5B) (io), R4 IO, PLL1_CLKOUTp (io), R5 IO, DIFFIO_B6p, (DQ3B)/(DQ5B) (io), R6 IO, DIFFIO_B7p, (DQ3B)/(DQ5B) (io), R7 IO, DIFFIO_B8p, (DQ3B)/(DQ5B) (io), R8 IO, DIFFIO_B11p (io), T2 IO, (DQS1B/CQ1B#,DPCLK2)/(DQS1B/CQ1B#,DPCLK2) (io), T3 IO, DIFFIO_B2n (io), T4 IO, PLL1_CLKOUTn (io), T5 IO, DIFFIO_B6n (io), T6 IO, DIFFIO_B7n (io), T7 IO, DIFFIO_B8n, (DQS5B/CQ5B#)/(DQS5B/CQ5B#) (io), T8 IO, DIFFIO_B11n (io)
part D pins: K9 IO, DIFFIO_B13p (io), K10 IO, DIFFIO_B18p (io), L9 IO, DIFFIO_B13n (io), L10 IO, DIFFIO_B18n (io), L11 IO, DIFFIO_B21n (io), M9 IO, DIFFIO_B14p (io), M10 IO, RUP2 (io), M11 IO, DIFFIO_B22p (io), N9 IO, DIFFIO_B14n, (DQ5B)/(DQ5B) (io), N11 IO, RDN2 (io), N12 IO, DIFFIO_B22n (io), P9 IO, (DQS2B/CQ3B)/(DQS2B/CQ3B) (io), P11 IO, VREFB4N0 (io), P14 IO, DIFFIO_B21p (io), R9 IO, DIFFIO_B12p (io), R10 IO, DIFFIO_B15p, (DQ5B)/(DQ5B) (io), R11 IO, DIFFIO_B16p, (DQ5B)/(DQ5B) (io), R12 IO, DIFFIO_B17p, (DQ5B)/(DQ5B) (io), R13 IO, DIFFIO_B19p (io), R14 IO (io), T9 IO, DIFFIO_B12n (io), T10 IO, DIFFIO_B15n, (DQS4B/CQ5B)/(DQS4B/CQ5B) (io), T11 IO, DIFFIO_B16n (io), T12 IO, DIFFIO_B17n, (DQ5B)/(DQ5B) (io), T13 IO, DIFFIO_B19n, (DQ5B)/(DQ5B) (io), T14 IO, DIFFIO_B20p, (DQ5B)/(DQ5B) (io), T15 IO, DIFFIO_B20n, (DQS0B/CQ1B,DPCLK3)/(DQS0B/CQ1B,DPCLK3) (io)
part E pins: J11 IO (io), J12 IO, DIFFIO_R6p (io), J13 IO, (DQ1R)/(_) (io), J14 IO, DIFFIO_R6n, (DQ1R)/(_) (io), J15 IO, DIFFIO_R7p, (DEV_CLRn) (io), J16 IO, DIFFIO_R7n, (DEV_OE) (io), K11 IO (io), K12 IO (io), K15 IO, DIFFIO_R8p, (DQS1R/CQ1R#,DPCLK4)/(DQS1R/CQ1R#,DPCLK4) (io), K16 IO, DIFFIO_R8n, (DQ1R)/(_) (io), L12 IO (io), L13 IO, (DQ1R)/(_) (io), L14 IO, VREFB5N0 (io), L15 IO, DIFFIO_R9p (io), L16 IO, DIFFIO_R9n, (DQ1R)/(_) (io), M12 IO (io), N13 IO (io), N14 IO, RUP3, (DM1R/BWS#1R)/(_) (io), N15 IO, DIFFIO_R10p, (DQ1R)/(_) (io), N16 IO, DIFFIO_R10n, (DQ1R)/(_) (io), P15 IO, RDN3, (DQ1R)/(_) (io), P16 IO, DIFFIO_R11n, (DQS3R/CQ3R#)/(DQS3R/CQ3R#) (io), R16 IO, DIFFIO_R11p, (DQ1R)/(_) (io)
part F pins: B16 IO, (DQS0R/CQ1R,DPCLK5)/(DQS0R/CQ1R,DPCLK5) (io), C15 IO, DIFFIO_R1p (io), C16 IO, DIFFIO_R1n, (DQS2R/CQ3R)/(DQS2R/CQ3R) (io), D15 IO, DIFFIO_R2p (io), D16 IO, DIFFIO_R2n (io), F13 IO (io), F14 IO, VREFB6N0 (io), F15 IO, DIFFIO_R3p, (CLKUSR) (io), F16 IO, DIFFIO_R3n, (nCEO) (io), G11 IO (io), G15 IO, DIFFIO_R4p, (CRC_ERROR) (io), G16 IO, DIFFIO_R4n, (INIT_DONE) (io)
part G pins: A9 IO, DIFFIO_T12n (io), A10 IO, DIFFIO_T14n, (DQ5T)/(DQ5T) (io), A11 IO, DIFFIO_T17n, (DQ5T)/(DQ5T) (io), A12 IO, DIFFIO_T18n, (DQ5T)/(DQ5T) (io), A13 IO, DIFFIO_T19n (io), A14 IO, PLL2_CLKOUTn (io), A15 IO, DIFFIO_T15p (io), B9 IO, DIFFIO_T12p (io), B10 IO, DIFFIO_T14p, (DQ5T)/(DQ5T) (io), B11 IO, DIFFIO_T17p, (DQ5T)/(DQ5T) (io), B12 IO, DIFFIO_T18p, (DQ5T)/(DQ5T) (io), B13 IO, DIFFIO_T19p, (DQ5T)/(DQ5T) (io), B14 IO, PLL2_CLKOUTp (io), C9 IO, DIFFIO_T13n, (DQ5T)/(DQ5T) (io), C11 IO, VREFB7N0 (io), C14 IO, DIFFIO_T21n (io), D9 IO, DIFFIO_T13p, (DM5T/BWS#5T)/(DM5T/BWS#5T) (io), D11 IO, DIFFIO_T20n (io), D12 IO, DIFFIO_T20p, (DQS0T/CQ1T,DPCLK6)/(DQS0T/CQ1T,DPCLK6) (io), D14 IO, DIFFIO_T21p, (DQ5T)/(DQ5T) (io), E9 IO, (DQS4T/CQ5T)/(DQS4T/CQ5T) (io), E10 IO, RDN4 (io), E11 IO, RUP4 (io), F9 IO, DIFFIO_T16p, (DQS2T/CQ3T)/(DQS2T/CQ3T) (io), F10 IO, DIFFIO_T16n (io), F11 IO, DIFFIO_T15n (io)
part H pins: A2 IO, DIFFIO_T5n (io), A3 IO, DIFFIO_T2n (io), A4 IO, DIFFIO_T4n, (DM3T/BWS#3T)/(DM5T/BWS#5T) (io), A5 IO, DIFFIO_T6n, (DATA7), (DQ3T)/(DQ5T) (io), A6 IO, DIFFIO_T7n, (DQS3T/CQ3T#)/(DQS3T/CQ3T#) (io), A7 IO, DIFFIO_T9n, (DQ3T)/(DQ5T) (io), A8 IO, DIFFIO_T11n (io), B3 IO, DIFFIO_T2p, (DQS1T/CQ1T#,DPCLK7)/(DQS1T/CQ1T#,DPCLK7) (io), B4 IO, DIFFIO_T4p (io), B5 IO, DIFFIO_T5p, (DQ3T)/(DQ5T) (io), B6 IO, DIFFIO_T7p, (DQ3T)/(DQ5T) (io), B7 IO, DIFFIO_T9p, (DATA4), (DQ3T)/(DQ5T) (io), B8 IO, DIFFIO_T11p (io), C3 IO, DIFFIO_T1n (io), C6 IO, VREFB8N0 (io), C8 IO, (DQS5T/CQ5T#)/(DQS5T/CQ5T#) (io), D3 IO, DIFFIO_T1p (io), D5 IO, DIFFIO_T3n (io), D6 IO, DIFFIO_T3p (io), D8 IO, (DQ3T)/(DQ5T) (io), E6 IO, (DATA6), (DQ3T)/(DQ5T) (io), E7 IO, (DATA5), (DQ3T)/(DQ5T) (io), E8 IO, DIFFIO_T10n, (DATA2), (DQ3T)/(DQ5T) (io), F6 IO, DIFFIO_T8n (io), F7 IO, DIFFIO_T8p (io), F8 IO, DIFFIO_T10p, (DATA3) (io)
part I pins: E1 CLK1, DIFFCLK_0n (in), E15 CLK4, DIFFCLK_2p (in), E16 CLK5, DIFFCLK_2n (in), M1 CLK3, DIFFCLK_1n (in), M2 CLK2, DIFFCLK_1p (in), M15 CLK6, DIFFCLK_3p (in), M16 CLK7, DIFFCLK_3n (in)
part J pins: F4 nSTATUS (io), G12 MSEL2 (in), H1 DCLK (io), H3 TCK (in), H4 TDI (in), H5 nCONFIG (in), H12 MSEL1 (in), H13 MSEL0 (in), H14 CONF_DONE (io), J3 nCE (in), J4 TDO (out), J5 TMS (in)
part K pins: A1 VCCIO8 (power), A16 VCCIO7 (power), C4 VCCIO8 (power), C7 VCCIO8 (power), C10 VCCIO7 (power), C13 VCCIO7 (power), E3 VCCIO1 (power), E14 VCCIO6 (power), G3 VCCIO1 (power), G6 VCCINT (power), G7 VCCINT (power), G8 VCCINT (power), G9 VCCINT (power), G10 VCCINT (power), G14 VCCIO6 (power), H6 VCCINT (power), H11 VCCINT (power), K3 VCCIO2 (power), K7 VCCINT (power), K14 VCCIO5 (power), M3 VCCIO2 (power), M14 VCCIO5 (power), P4 VCCIO3 (power), P7 VCCIO3 (power), P10 VCCIO4 (power), P13 VCCIO4 (power), T1 VCCIO3 (power), T16 VCCIO4 (power)
part L pins: B2 GND (power), B15 GND (power), C5 GND (power), C12 GND (power), D7 GND (power), D10 GND (power), E2 GND (power), E4 GND (power), E13 GND (power), G4 GND (power), G13 GND (power), H7 GND (power), H8 GND (power), H9 GND (power), H10 GND (power), H15 GND (power), H16 GND (power), J7 GND (power), J8 GND (power), J9 GND (power), J10 GND (power), K4 GND (power), K13 GND (power), M4 GND (power), M13 GND (power), N7 GND (power), N10 GND (power), P5 GND (power), P12 GND (power), R2 GND (power), R15 GND (power)
part M pins: D13 VCCD_PLL2 (power), E12 GNDA2 (power), F12 VCCA2 (power), L5 VCCA1 (power), M5 GNDA1 (power), N4 VCCD_PLL1 (power)
part A text: BANK 1
part B text: BANK 2
part C text: BANK 3
part D text: BANK 4
part E text: BANK 5
part F text: BANK 6
part G text: BANK 7
part H text: BANK 8

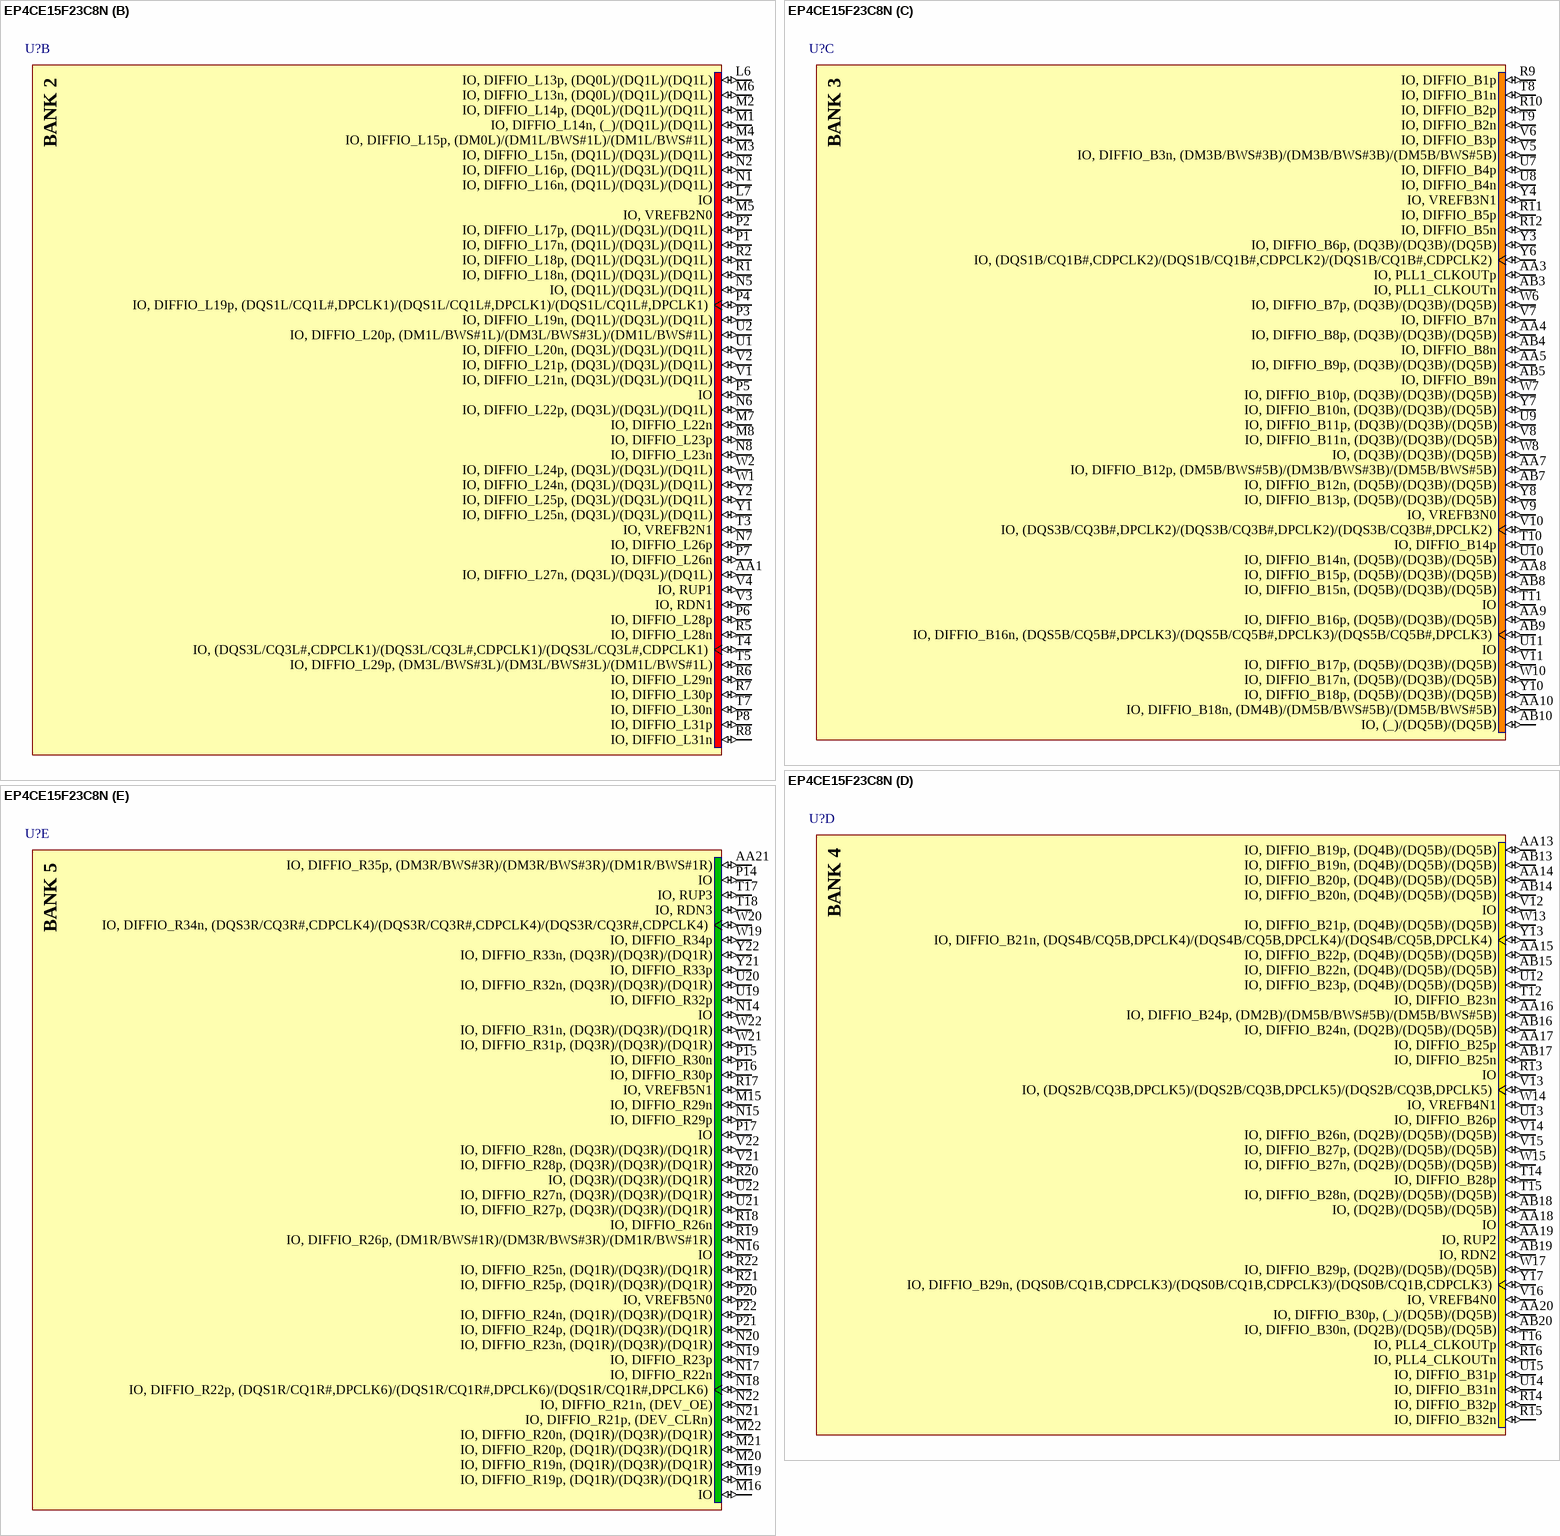
[diagram p4: symbol EP4CE15F23C8N]

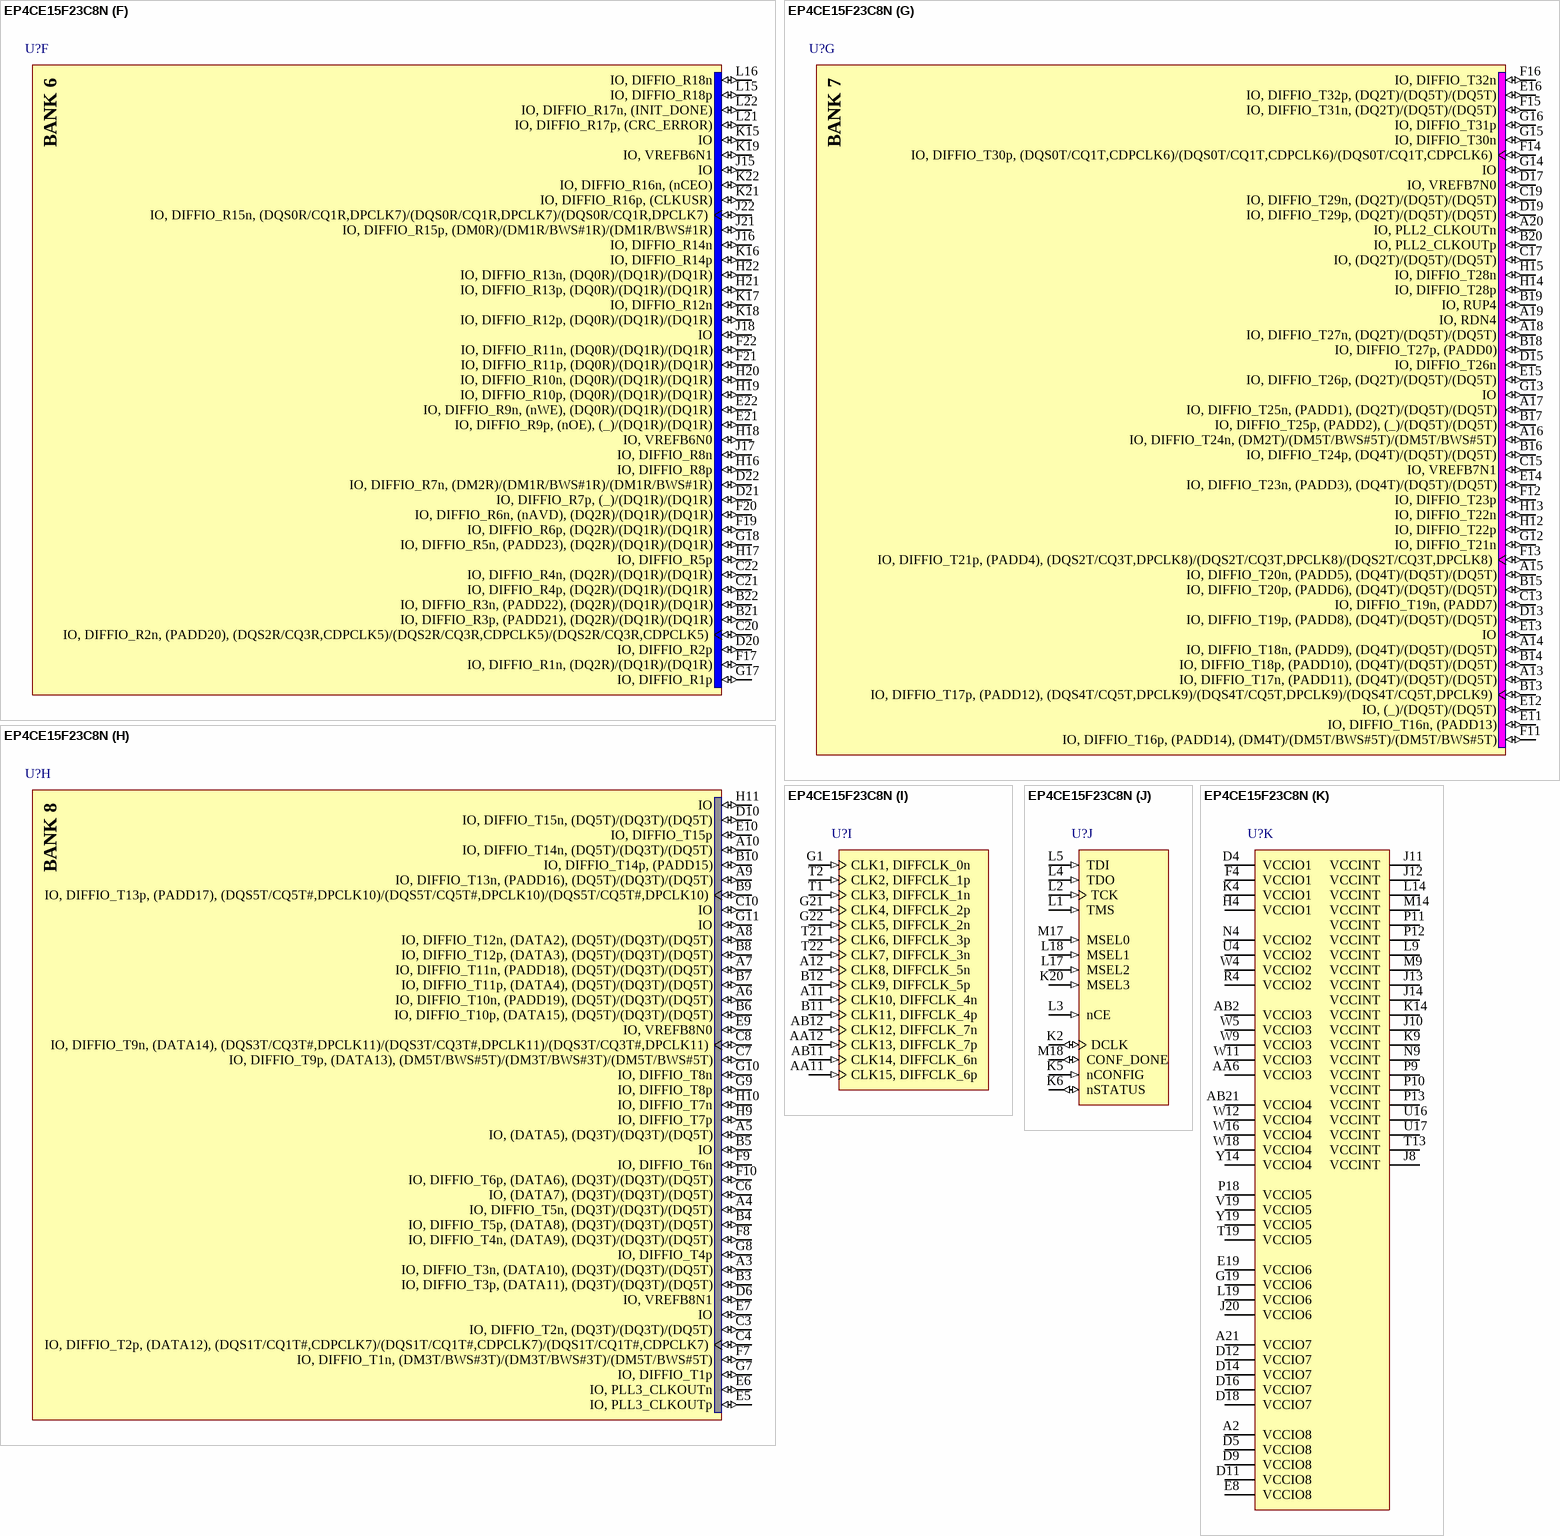
[diagram p5: symbol EP4CE15F23C8N]

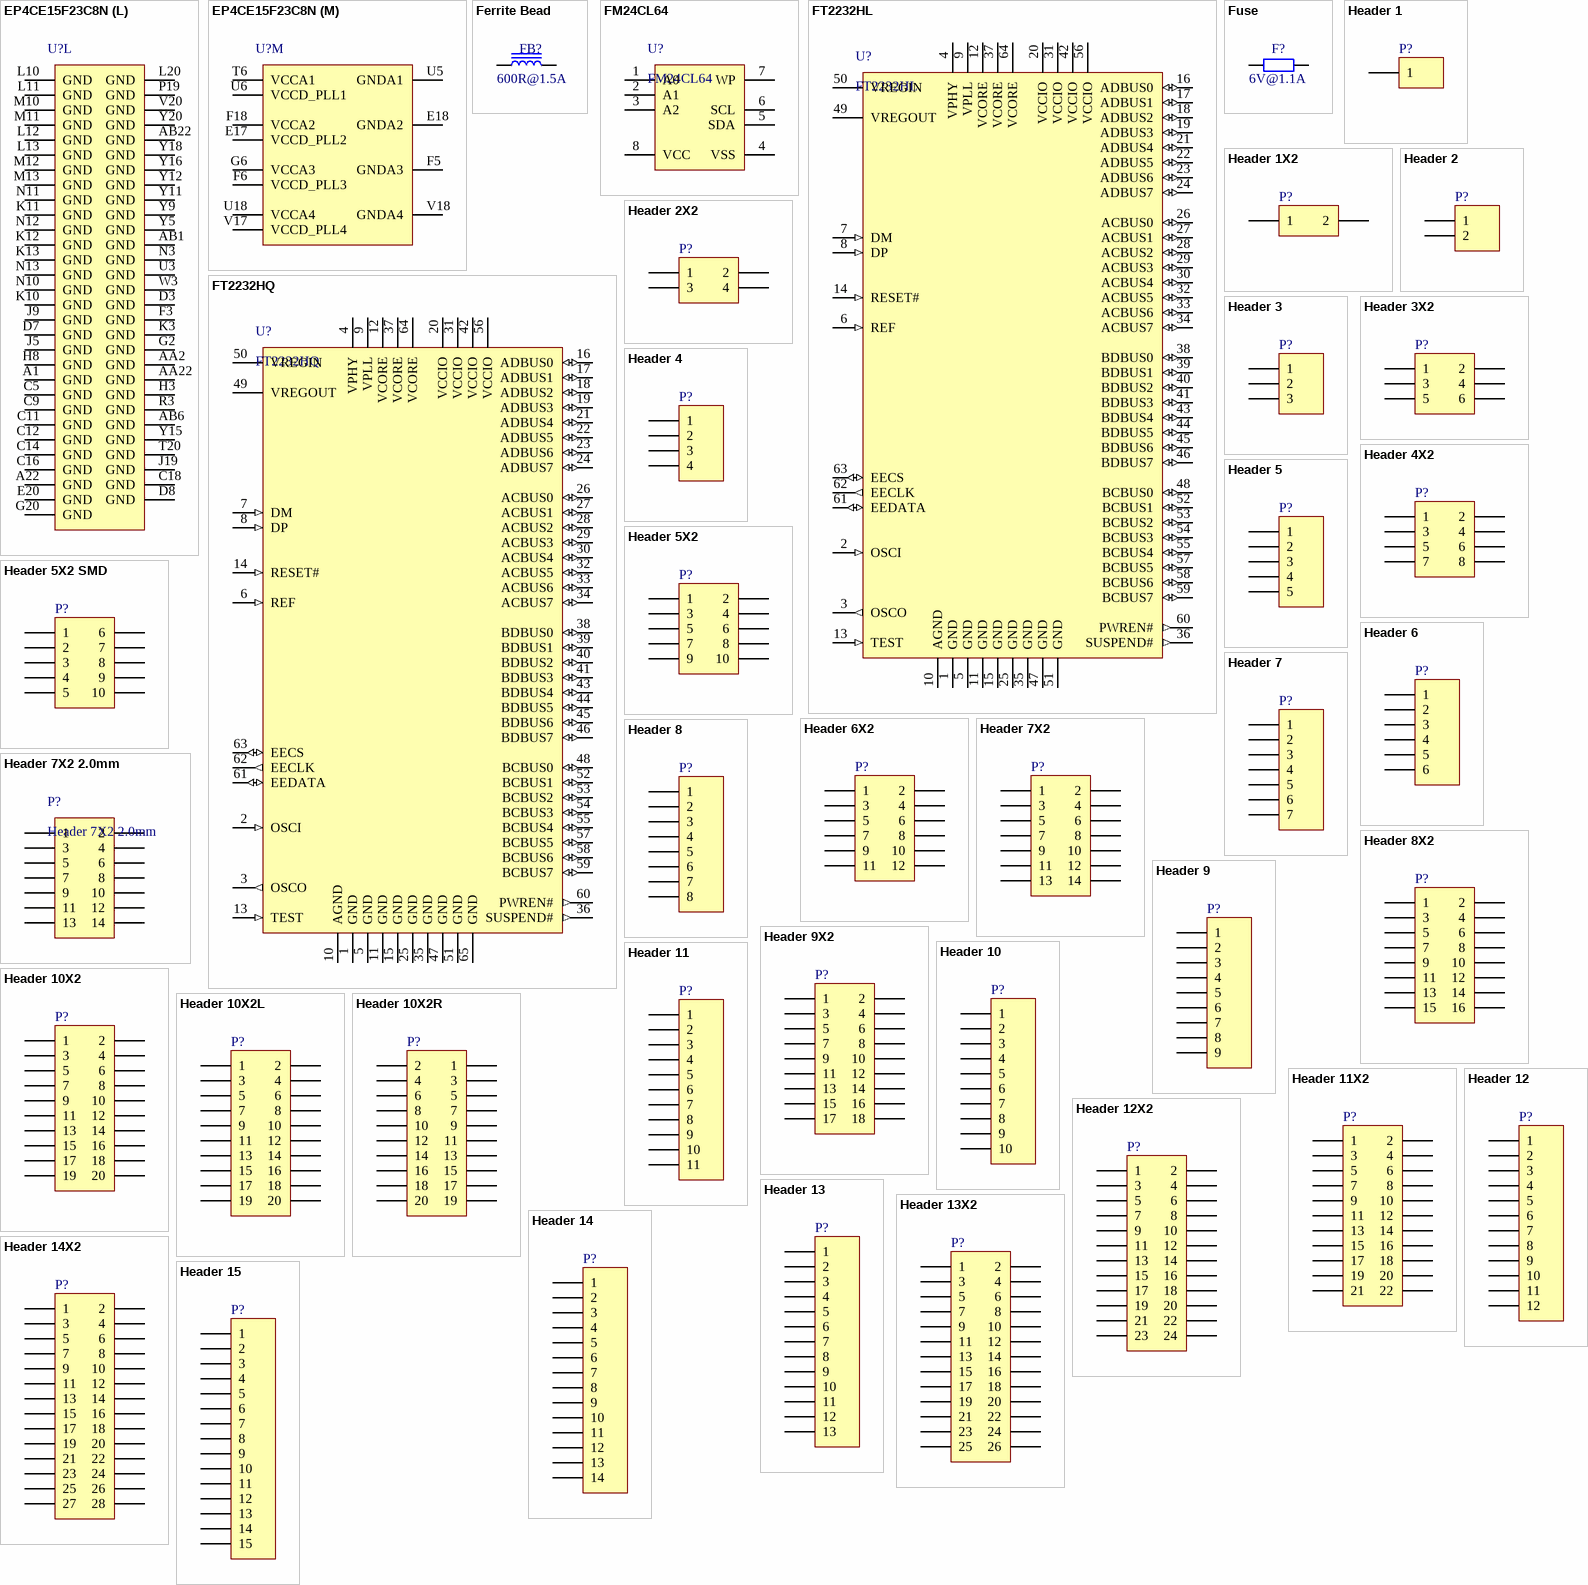
[diagram p6: symbols EP4CE15F23C8N to Header 15]